# Altium schematic symbol library MCU_Microchip_PIC18.SchLib: 172 symbols (part 3 of 4)
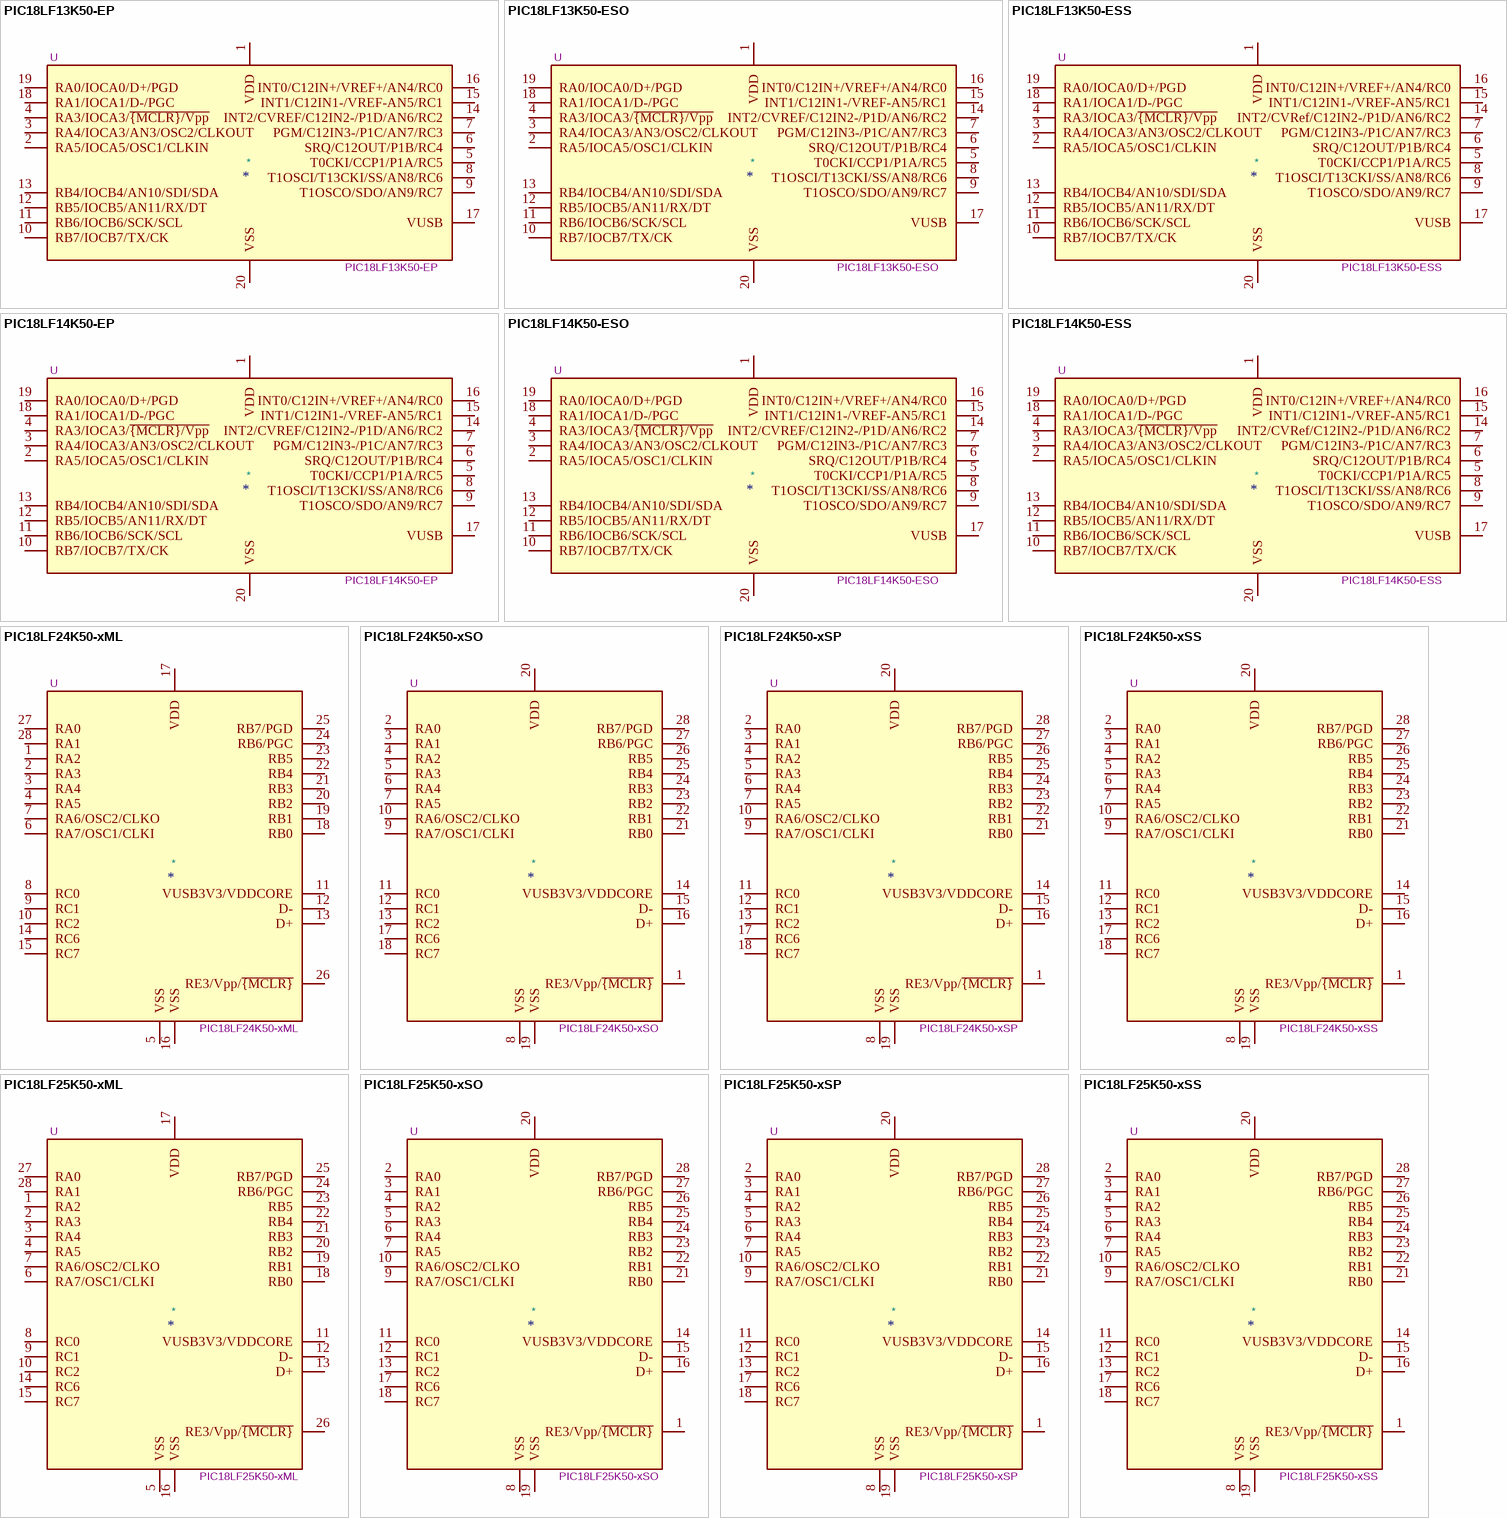
[diagram p18: symbols PIC18LF13K50-EP to PIC18LF25K50-xSS]

## PIC18LF13K50-ESS
designator *  value PIC18LF13K50-ESS  Reference: U
ki_keywords: Flash-Based 8bit CMOS Microcontroller XLP; ki_description: 8K Flash, 512 SRAM, 256 EEPROM, USB, nanoWatt XLP, SSOP20; ki_fp_filters: SSOP*5.3x7.2mm*P0.65mm*; Footprint: Package_SO:SSOP-20_5.3x7.2mm_P0.65mm; Datasheet: http://ww1.microchip.com/downloads/en/devicedoc/41350c.pdf
pins: 1 VDD, 2 RA5/IOCA5/OSC1/CLKIN, 3 RA4/IOCA3/AN3/OSC2/CLKOUT, 4 RA3/IOCA3/~{{MCLR}/Vpp}, 5 T0CKI/CCP1/P1A/RC5, 6 SRQ/C12OUT/P1B/RC4, 7 PGM/C12IN3-/P1C/AN7/RC3, 8 T1OSCI/T13CKI/SS/AN8/RC6, 9 T1OSCO/SDO/AN9/RC7, 10 RB7/IOCB7/TX/CK, 11 RB6/IOCB6/SCK/SCL, 12 RB5/IOCB5/AN11/RX/DT, 13 RB4/IOCB4/AN10/SDI/SDA, 14 INT2/CVRef/C12IN2-/P1D/AN6/RC2, 15 INT1/C12IN1-/VREF-AN5/RC1, 16 INT0/C12IN+/VREF+/AN4/RC0, 17 VUSB, 18 RA1/IOCA1/D-/PGC, 19 RA0/IOCA0/D+/PGD, 20 VSS

## PIC18LF14K50-EP
designator *  value PIC18LF14K50-EP  Reference: U
ki_keywords: Flash-Based 8bit CMOS Microcontroller XLP; ki_description: 16K Flash, 768 SRAM, 256 EEPROM, USB, nanoWatt XLP, DIP20; ki_fp_filters: DIP*W7.62mm* PDIP*W7.62mm*; Footprint: Package_DIP:DIP-20_W7.62mm; Datasheet: http://ww1.microchip.com/downloads/en/devicedoc/41350c.pdf
pins: 1 VDD, 2 RA5/IOCA5/OSC1/CLKIN, 3 RA4/IOCA3/AN3/OSC2/CLKOUT, 4 RA3/IOCA3/~{{MCLR}/Vpp}, 5 T0CKI/CCP1/P1A/RC5, 6 SRQ/C12OUT/P1B/RC4, 7 PGM/C12IN3-/P1C/AN7/RC3, 8 T1OSCI/T13CKI/SS/AN8/RC6, 9 T1OSCO/SDO/AN9/RC7, 10 RB7/IOCB7/TX/CK, 11 RB6/IOCB6/SCK/SCL, 12 RB5/IOCB5/AN11/RX/DT, 13 RB4/IOCB4/AN10/SDI/SDA, 14 INT2/CVREF/C12IN2-/P1D/AN6/RC2, 15 INT1/C12IN1-/VREF-AN5/RC1, 16 INT0/C12IN+/VREF+/AN4/RC0, 17 VUSB, 18 RA1/IOCA1/D-/PGC, 19 RA0/IOCA0/D+/PGD, 20 VSS

## PIC18LF14K50-ESO
designator *  value PIC18LF14K50-ESO  Reference: U
ki_keywords: Flash-Based 8bit CMOS Microcontroller XLP; ki_description: 16K Flash, 768 SRAM, 256 EEPROM, USB, nanoWatt XLP, SOIC20; ki_fp_filters: SOIC*W*7.5x12.8mm*P1.27mm*; Footprint: Package_SO:SOIC-20W_7.5x12.8mm_P1.27mm; Datasheet: http://ww1.microchip.com/downloads/en/devicedoc/41350c.pdf
pins: 1 VDD, 2 RA5/IOCA5/OSC1/CLKIN, 3 RA4/IOCA3/AN3/OSC2/CLKOUT, 4 RA3/IOCA3/~{{MCLR}/Vpp}, 5 T0CKI/CCP1/P1A/RC5, 6 SRQ/C12OUT/P1B/RC4, 7 PGM/C12IN3-/P1C/AN7/RC3, 8 T1OSCI/T13CKI/SS/AN8/RC6, 9 T1OSCO/SDO/AN9/RC7, 10 RB7/IOCB7/TX/CK, 11 RB6/IOCB6/SCK/SCL, 12 RB5/IOCB5/AN11/RX/DT, 13 RB4/IOCB4/AN10/SDI/SDA, 14 INT2/CVREF/C12IN2-/P1D/AN6/RC2, 15 INT1/C12IN1-/VREF-AN5/RC1, 16 INT0/C12IN+/VREF+/AN4/RC0, 17 VUSB, 18 RA1/IOCA1/D-/PGC, 19 RA0/IOCA0/D+/PGD, 20 VSS

## PIC18LF14K50-ESS
designator *  value PIC18LF14K50-ESS  Reference: U
ki_keywords: Flash-Based 8bit CMOS Microcontroller XLP; ki_description: 16K Flash, 768 SRAM, 256 EEPROM, USB, nanoWatt XLP, SSOP20; ki_fp_filters: SSOP*5.3x7.2mm*P0.65mm*; Footprint: Package_SO:SSOP-20_5.3x7.2mm_P0.65mm; Datasheet: http://ww1.microchip.com/downloads/en/devicedoc/41350c.pdf
pins: 1 VDD, 2 RA5/IOCA5/OSC1/CLKIN, 3 RA4/IOCA3/AN3/OSC2/CLKOUT, 4 RA3/IOCA3/~{{MCLR}/Vpp}, 5 T0CKI/CCP1/P1A/RC5, 6 SRQ/C12OUT/P1B/RC4, 7 PGM/C12IN3-/P1C/AN7/RC3, 8 T1OSCI/T13CKI/SS/AN8/RC6, 9 T1OSCO/SDO/AN9/RC7, 10 RB7/IOCB7/TX/CK, 11 RB6/IOCB6/SCK/SCL, 12 RB5/IOCB5/AN11/RX/DT, 13 RB4/IOCB4/AN10/SDI/SDA, 14 INT2/CVRef/C12IN2-/P1D/AN6/RC2, 15 INT1/C12IN1-/VREF-AN5/RC1, 16 INT0/C12IN+/VREF+/AN4/RC0, 17 VUSB, 18 RA1/IOCA1/D-/PGC, 19 RA0/IOCA0/D+/PGD, 20 VSS

## PIC18LF24K50-xML
designator *  value PIC18LF24K50-xML  Reference: U
ki_keywords: Flash-Based 8-Bit Microcontroller XLP; ki_description: 16K Flash, 2K SRAM, 256 EEPROM, USB, nanoWatt XLP, 1.8V to 3.6V, QFN28; ki_fp_filters: QFN*1EP*6x6mm*P0.65mm*; Footprint: Package_DFN_QFN:QFN-28-1EP_6x6mm_P0.65mm_EP4.25x4.25mm; Datasheet: http://ww1.microchip.com/downloads/en/devicedoc/30000684B.pdf
pins: 1 RA2, 2 RA3, 3 RA4, 4 RA5, 5 VSS, 6 RA7/OSC1/CLKI, 7 RA6/OSC2/CLKO, 8 RC0, 9 RC1, 10 RC2, 11 VUSB3V3/VDDCORE, 12 D-, 13 D+, 14 RC6, 15 RC7, 16 VSS, 17 VDD, 18 RB0, 19 RB1, 20 RB2, 21 RB3, 22 RB4, 23 RB5, 24 RB6/PGC, 25 RB7/PGD, 26 RE3/Vpp/~{{MCLR}}, 27 RA0, 28 RA1

## PIC18LF24K50-xSO
designator *  value PIC18LF24K50-xSO  Reference: U
ki_keywords: Flash-Based 8-Bit Microcontroller XLP; ki_description: 16K Flash, 2K SRAM, 256 EEPROM, USB, nanoWatt XLP, 1.8V to 3.6V, SOIC28; ki_fp_filters: SO*W*7.5x17.9mm*P1.27mm*; Footprint: Package_SO:SOIC-28W_7.5x17.9mm_P1.27mm; Datasheet: http://ww1.microchip.com/downloads/en/devicedoc/30000684B.pdf
pins: 1 RE3/Vpp/~{{MCLR}}, 2 RA0, 3 RA1, 4 RA2, 5 RA3, 6 RA4, 7 RA5, 8 VSS, 9 RA7/OSC1/CLKI, 10 RA6/OSC2/CLKO, 11 RC0, 12 RC1, 13 RC2, 14 VUSB3V3/VDDCORE, 15 D-, 16 D+, 17 RC6, 18 RC7, 19 VSS, 20 VDD, 21 RB0, 22 RB1, 23 RB2, 24 RB3, 25 RB4, 26 RB5, 27 RB6/PGC, 28 RB7/PGD

## PIC18LF24K50-xSP
designator *  value PIC18LF24K50-xSP  Reference: U
ki_keywords: Flash-Based 8-Bit Microcontroller XLP; ki_description: 16K Flash, 2K SRAM, 256 EEPROM, USB, nanoWatt XLP, 1.8V to 3.6V, SPDIP28; ki_fp_filters: SPDIP*W7.62mm* DIP*W7.62mm* PDIP*W7.62mm*; Footprint: Package_DIP:DIP-28_W7.62mm; Datasheet: http://ww1.microchip.com/downloads/en/devicedoc/30000684B.pdf
pins: 1 RE3/Vpp/~{{MCLR}}, 2 RA0, 3 RA1, 4 RA2, 5 RA3, 6 RA4, 7 RA5, 8 VSS, 9 RA7/OSC1/CLKI, 10 RA6/OSC2/CLKO, 11 RC0, 12 RC1, 13 RC2, 14 VUSB3V3/VDDCORE, 15 D-, 16 D+, 17 RC6, 18 RC7, 19 VSS, 20 VDD, 21 RB0, 22 RB1, 23 RB2, 24 RB3, 25 RB4, 26 RB5, 27 RB6/PGC, 28 RB7/PGD

## PIC18LF24K50-xSS
designator *  value PIC18LF24K50-xSS  Reference: U
ki_keywords: Flash-Based 8-Bit Microcontroller XLP; ki_description: 16K Flash, 2K SRAM, 256 EEPROM, USB, nanoWatt XLP, 1.8V to 3.6V, SSOP28; ki_fp_filters: SSOP*5.3x10.2mm*P0.65mm*; Footprint: Package_SO:SSOP-28_5.3x10.2mm_P0.65mm; Datasheet: http://ww1.microchip.com/downloads/en/devicedoc/30000684B.pdf
pins: 1 RE3/Vpp/~{{MCLR}}, 2 RA0, 3 RA1, 4 RA2, 5 RA3, 6 RA4, 7 RA5, 8 VSS, 9 RA7/OSC1/CLKI, 10 RA6/OSC2/CLKO, 11 RC0, 12 RC1, 13 RC2, 14 VUSB3V3/VDDCORE, 15 D-, 16 D+, 17 RC6, 18 RC7, 19 VSS, 20 VDD, 21 RB0, 22 RB1, 23 RB2, 24 RB3, 25 RB4, 26 RB5, 27 RB6/PGC, 28 RB7/PGD

## PIC18LF25K50-xML
designator *  value PIC18LF25K50-xML  Reference: U
ki_keywords: Flash-Based 8-Bit Microcontroller XLP; ki_description: 32K Flash, 2K SRAM, 256 EEPROM, USB, nanoWatt XLP, 1.8V to 3.6V, QFN28; ki_fp_filters: QFN*1EP*6x6mm*P0.65mm*; Footprint: Package_DFN_QFN:QFN-28-1EP_6x6mm_P0.65mm_EP4.25x4.25mm; Datasheet: http://ww1.microchip.com/downloads/en/devicedoc/30000684B.pdf
pins: 1 RA2, 2 RA3, 3 RA4, 4 RA5, 5 VSS, 6 RA7/OSC1/CLKI, 7 RA6/OSC2/CLKO, 8 RC0, 9 RC1, 10 RC2, 11 VUSB3V3/VDDCORE, 12 D-, 13 D+, 14 RC6, 15 RC7, 16 VSS, 17 VDD, 18 RB0, 19 RB1, 20 RB2, 21 RB3, 22 RB4, 23 RB5, 24 RB6/PGC, 25 RB7/PGD, 26 RE3/Vpp/~{{MCLR}}, 27 RA0, 28 RA1

## PIC18LF25K50-xSO
designator *  value PIC18LF25K50-xSO  Reference: U
ki_keywords: Flash-Based 8-Bit Microcontroller XLP; ki_description: 32K Flash, 2K SRAM, 256 EEPROM, USB, nanoWatt XLP, 1.8V to 3.6V, SOIC28; ki_fp_filters: SO*W*7.5x17.9mm*P1.27mm*; Footprint: Package_SO:SOIC-28W_7.5x17.9mm_P1.27mm; Datasheet: http://ww1.microchip.com/downloads/en/devicedoc/30000684B.pdf
pins: 1 RE3/Vpp/~{{MCLR}}, 2 RA0, 3 RA1, 4 RA2, 5 RA3, 6 RA4, 7 RA5, 8 VSS, 9 RA7/OSC1/CLKI, 10 RA6/OSC2/CLKO, 11 RC0, 12 RC1, 13 RC2, 14 VUSB3V3/VDDCORE, 15 D-, 16 D+, 17 RC6, 18 RC7, 19 VSS, 20 VDD, 21 RB0, 22 RB1, 23 RB2, 24 RB3, 25 RB4, 26 RB5, 27 RB6/PGC, 28 RB7/PGD

## PIC18LF25K50-xSP
designator *  value PIC18LF25K50-xSP  Reference: U
ki_keywords: Flash-Based 8-Bit Microcontroller XLP; ki_description: 32K Flash, 2K SRAM, 256 EEPROM, USB, nanoWatt XLP, 1.8V to 3.6V, SPDIP28; ki_fp_filters: SPDIP*W7.62mm* DIP*W7.62mm* PDIP*W7.62mm*; Footprint: Package_DIP:DIP-28_W7.62mm; Datasheet: http://ww1.microchip.com/downloads/en/devicedoc/30000684B.pdf
pins: 1 RE3/Vpp/~{{MCLR}}, 2 RA0, 3 RA1, 4 RA2, 5 RA3, 6 RA4, 7 RA5, 8 VSS, 9 RA7/OSC1/CLKI, 10 RA6/OSC2/CLKO, 11 RC0, 12 RC1, 13 RC2, 14 VUSB3V3/VDDCORE, 15 D-, 16 D+, 17 RC6, 18 RC7, 19 VSS, 20 VDD, 21 RB0, 22 RB1, 23 RB2, 24 RB3, 25 RB4, 26 RB5, 27 RB6/PGC, 28 RB7/PGD

## PIC18LF25K50-xSS
designator *  value PIC18LF25K50-xSS  Reference: U
ki_keywords: Flash-Based 8-Bit Microcontroller XLP; ki_description: 32K Flash, 2K SRAM, 256 EEPROM, USB, nanoWatt XLP, 1.8V to 3.6V, SSOP28; ki_fp_filters: SSOP*5.3x10.2mm*P0.65mm*; Footprint: Package_SO:SSOP-28_5.3x10.2mm_P0.65mm; Datasheet: http://ww1.microchip.com/downloads/en/devicedoc/30000684B.pdf
pins: 1 RE3/Vpp/~{{MCLR}}, 2 RA0, 3 RA1, 4 RA2, 5 RA3, 6 RA4, 7 RA5, 8 VSS, 9 RA7/OSC1/CLKI, 10 RA6/OSC2/CLKO, 11 RC0, 12 RC1, 13 RC2, 14 VUSB3V3/VDDCORE, 15 D-, 16 D+, 17 RC6, 18 RC7, 19 VSS, 20 VDD, 21 RB0, 22 RB1, 23 RB2, 24 RB3, 25 RB4, 26 RB5, 27 RB6/PGC, 28 RB7/PGD

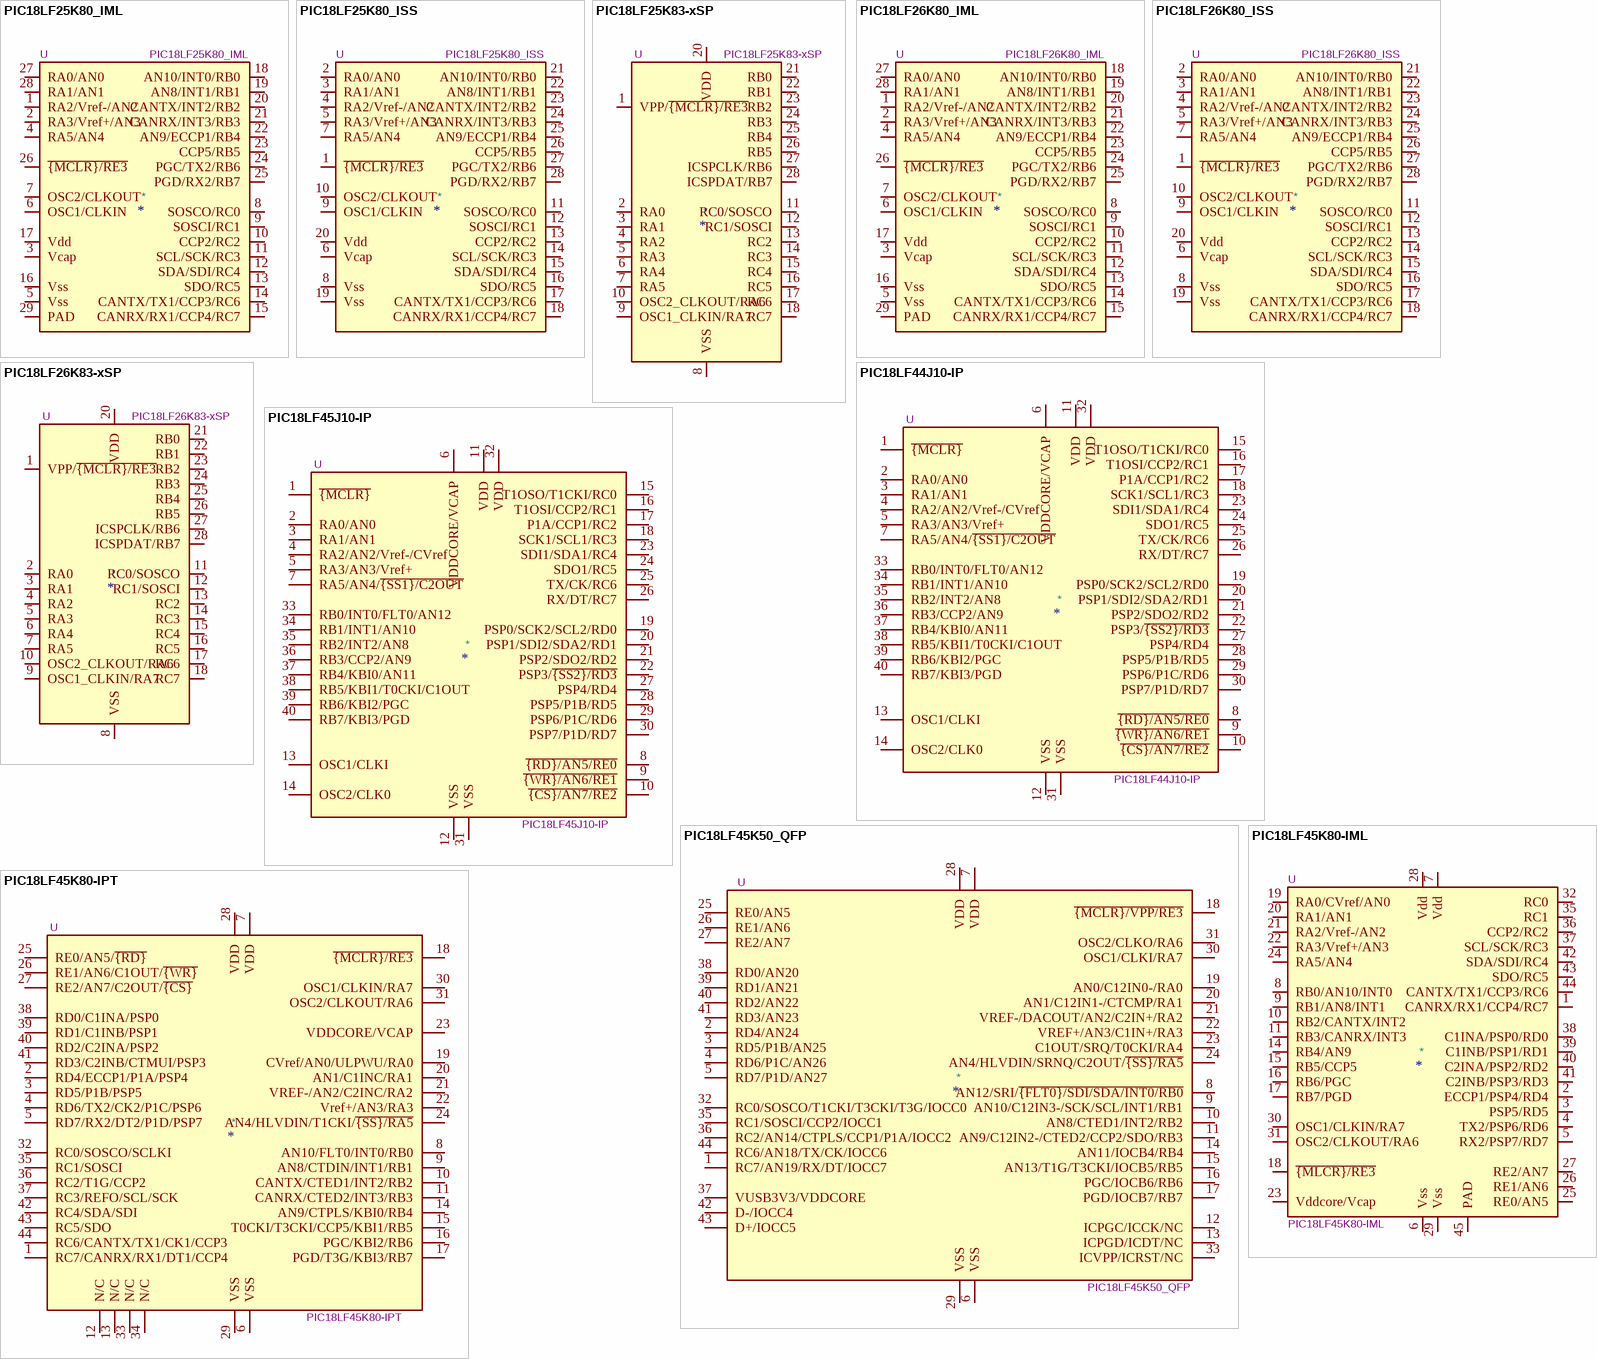
[diagram p11: symbols PIC18LF25K80_IML to PIC18LF45K80-IPT]

## PIC18LF25K80_IML
designator *  value PIC18LF25K80_IML  Reference: U
ki_keywords: microcontroller microchip CAN USB UART QFN SPI I2C FLASH EEPROM; ki_description: 32K Flash, 3.5K RAM, 1K EEPROM 28-Pin QFN Flash Microcontroller with ECAN and nanoWatt XLP Technology; ki_fp_filters: QFN*1EP*6x6mm*P0.65mm*; Footprint: Package_DFN_QFN:QFN-28-1EP_6x6mm_P0.65mm_EP4.25x4.25mm; Datasheet: http://ww1.microchip.com/downloads/en/DeviceDoc/39977f.pdf
pins: 1 RA2/Vref-/AN2, 2 RA3/Vref+/AN3, 3 Vcap, 4 RA5/AN4, 5 Vss, 6 OSC1/CLKIN, 7 OSC2/CLKOUT, 8 SOSCO/RC0, 9 SOSCI/RC1, 10 CCP2/RC2, 11 SCL/SCK/RC3, 12 SDA/SDI/RC4, 13 SDO/RC5, 14 CANTX/TX1/CCP3/RC6, 15 CANRX/RX1/CCP4/RC7, 16 Vss, 17 Vdd, 18 AN10/INT0/RB0, 19 AN8/INT1/RB1, 20 CANTX/INT2/RB2, 21 CANRX/INT3/RB3, 22 AN9/ECCP1/RB4, 23 CCP5/RB5, 24 PGC/TX2/RB6, 25 PGD/RX2/RB7, 26 ~{{MCLR}/RE3}, 27 RA0/AN0, 28 RA1/AN1, 29 PAD

## PIC18LF25K80_ISS
designator *  value PIC18LF25K80_ISS  Reference: U
ki_keywords: microchip microcontroller PIC18 flash ECAN XLP nanoWatt; ki_description: 32K Flash, 3.5K RAM, 1K EEPROM PIC18 Microcontroller ADC PWM CAN SPI I2C USART in SSOP28 package; ki_fp_filters: SSOP*5.3x10.2mm*P0.65mm*; Footprint: Package_SO:SSOP-28_5.3x10.2mm_P0.65mm; Datasheet: http://ww1.microchip.com/downloads/en/DeviceDoc/39977f.pdf
pins: 1 ~{{MCLR}/RE3}, 2 RA0/AN0, 3 RA1/AN1, 4 RA2/Vref-/AN2, 5 RA3/Vref+/AN3, 6 Vcap, 7 RA5/AN4, 8 Vss, 9 OSC1/CLKIN, 10 OSC2/CLKOUT, 11 SOSCO/RC0, 12 SOSCI/RC1, 13 CCP2/RC2, 14 SCL/SCK/RC3, 15 SDA/SDI/RC4, 16 SDO/RC5, 17 CANTX/TX1/CCP3/RC6, 18 CANRX/RX1/CCP4/RC7, 19 Vss, 20 Vdd, 21 AN10/INT0/RB0, 22 AN8/INT1/RB1, 23 CANTX/INT2/RB2, 24 CANRX/INT3/RB3, 25 AN9/ECCP1/RB4, 26 CCP5/RB5, 27 PGC/TX2/RB6, 28 PGD/RX2/RB7

## PIC18LF25K83-xSP
designator *  value PIC18LF25K83-xSP  Reference: U
ki_keywords: microcontroller Microchip DMA WWDT DIA DCI XLP CLC CWG CCP NCO DSM CRC UART LIN DMX DALI SPI CAN I2C PPS SMT ADC2 CVD DAC; ki_description: 32K Flash, 2K RAM, 1K EEPROM, 1.8-3.6V, PIC18, low-power microcontroller with CAN, DIP-28; ki_fp_filters: DIP*W7.62mm*; Footprint: Package_DIP:DIP-28_W7.62mm; Datasheet: http://ww1.microchip.com/downloads/en/DeviceDoc/40001943A.pdf
pins: 1 VPP/~{{MCLR}/RE3}, 2 RA0, 3 RA1, 4 RA2, 5 RA3, 6 RA4, 7 RA5, 8 VSS, 9 OSC1_CLKIN/RA7, 10 OSC2_CLKOUT/RA6, 11 RC0/SOSCO, 12 RC1/SOSCI, 13 RC2, 14 RC3, 15 RC4, 16 RC5, 17 RC6, 18 RC7, 19 VSS hidden, 20 VDD, 21 RB0, 22 RB1, 23 RB2, 24 RB3, 25 RB4, 26 RB5, 27 ICSPCLK/RB6, 28 ICSPDAT/RB7

## PIC18LF26K80_IML
designator *  value PIC18LF26K80_IML  Reference: U
ki_keywords: microchip microcontroller PIC18 flash ECAN XLP nanoWatt; ki_description: 64K Flash, 3.5K RAM, 1K EEPROM PIC18 Microcontroller ADC PWM CAN SPI I2C USART in QFN28 package; ki_fp_filters: QFN*1EP*6x6mm*P0.65mm*; Footprint: Package_DFN_QFN:QFN-28-1EP_6x6mm_P0.65mm_EP4.25x4.25mm; Datasheet: http://ww1.microchip.com/downloads/en/DeviceDoc/39977f.pdf
pins: 1 RA2/Vref-/AN2, 2 RA3/Vref+/AN3, 3 Vcap, 4 RA5/AN4, 5 Vss, 6 OSC1/CLKIN, 7 OSC2/CLKOUT, 8 SOSCO/RC0, 9 SOSCI/RC1, 10 CCP2/RC2, 11 SCL/SCK/RC3, 12 SDA/SDI/RC4, 13 SDO/RC5, 14 CANTX/TX1/CCP3/RC6, 15 CANRX/RX1/CCP4/RC7, 16 Vss, 17 Vdd, 18 AN10/INT0/RB0, 19 AN8/INT1/RB1, 20 CANTX/INT2/RB2, 21 CANRX/INT3/RB3, 22 AN9/ECCP1/RB4, 23 CCP5/RB5, 24 PGC/TX2/RB6, 25 PGD/RX2/RB7, 26 ~{{MCLR}/RE3}, 27 RA0/AN0, 28 RA1/AN1, 29 PAD

## PIC18LF26K80_ISS
designator *  value PIC18LF26K80_ISS  Reference: U
ki_keywords: microchip microcontroller PIC18 flash ECAN XLP nanoWatt; ki_description: 64K Flash, 3.5K RAM, 1K EEPROM PIC18 Microcontroller ADC PWM CAN SPI I2C USART in SSOP28 package; ki_fp_filters: SSOP*5.3x10.2mm*P0.65mm*; Footprint: Package_SO:SSOP-28_5.3x10.2mm_P0.65mm; Datasheet: http://ww1.microchip.com/downloads/en/DeviceDoc/39977f.pdf
pins: 1 ~{{MCLR}/RE3}, 2 RA0/AN0, 3 RA1/AN1, 4 RA2/Vref-/AN2, 5 RA3/Vref+/AN3, 6 Vcap, 7 RA5/AN4, 8 Vss, 9 OSC1/CLKIN, 10 OSC2/CLKOUT, 11 SOSCO/RC0, 12 SOSCI/RC1, 13 CCP2/RC2, 14 SCL/SCK/RC3, 15 SDA/SDI/RC4, 16 SDO/RC5, 17 CANTX/TX1/CCP3/RC6, 18 CANRX/RX1/CCP4/RC7, 19 Vss, 20 Vdd, 21 AN10/INT0/RB0, 22 AN8/INT1/RB1, 23 CANTX/INT2/RB2, 24 CANRX/INT3/RB3, 25 AN9/ECCP1/RB4, 26 CCP5/RB5, 27 PGC/TX2/RB6, 28 PGD/RX2/RB7

## PIC18LF26K83-xSP
designator *  value PIC18LF26K83-xSP  Reference: U
ki_keywords: microcontroller Microchip DMA WWDT DIA DCI XLP CLC CWG CCP NCO DSM CRC UART LIN DMX DALI SPI CAN I2C PPS SMT ADC2 CVD DAC; ki_description: 64K Flash, 4K RAM, 1K EEPROM, 1.8-3.6V, PIC18, low-power microcontroller with CAN, DIP-28; ki_fp_filters: DIP*W7.62mm*; Footprint: Package_DIP:DIP-28_W7.62mm; Datasheet: http://ww1.microchip.com/downloads/en/DeviceDoc/40001943A.pdf
pins: 1 VPP/~{{MCLR}/RE3}, 2 RA0, 3 RA1, 4 RA2, 5 RA3, 6 RA4, 7 RA5, 8 VSS, 9 OSC1_CLKIN/RA7, 10 OSC2_CLKOUT/RA6, 11 RC0/SOSCO, 12 RC1/SOSCI, 13 RC2, 14 RC3, 15 RC4, 16 RC5, 17 RC6, 18 RC7, 19 VSS hidden, 20 VDD, 21 RB0, 22 RB1, 23 RB2, 24 RB3, 25 RB4, 26 RB5, 27 ICSPCLK/RB6, 28 ICSPDAT/RB7

## PIC18LF44J10-IP
designator *  value PIC18LF44J10-IP  Reference: U
ki_keywords: Flash-Based 8-Bit Microcontroller; ki_description: 16K Flash, 1K SRAM, ADC, DIP40; ki_fp_filters: DIP*W15.24mm* PDIP*W15.24mm*; Footprint: Package_DIP:DIP-40_W15.24mm; Datasheet: http://ww1.microchip.com/downloads/en/DeviceDoc/39682E.pdf
pins: 1 ~{{MCLR}}, 2 RA0/AN0, 3 RA1/AN1, 4 RA2/AN2/Vref-/CVref, 5 RA3/AN3/Vref+, 6 VDDCORE/VCAP, 7 RA5/AN4/~{{SS1}/C2OUT}, 8 ~{{RD}/AN5/RE0}, 9 ~{{WR}/AN6/RE1}, 10 ~{{CS}/AN7/RE2}, 11 VDD, 12 VSS, 13 OSC1/CLKI, 14 OSC2/CLK0, 15 T1OSO/T1CKI/RC0, 16 T1OSI/CCP2/RC1, 17 P1A/CCP1/RC2, 18 SCK1/SCL1/RC3, 19 PSP0/SCK2/SCL2/RD0, 20 PSP1/SDI2/SDA2/RD1, 21 PSP2/SDO2/RD2, 22 PSP3/~{{SS2}/RD3}, 23 SDI1/SDA1/RC4, 24 SDO1/RC5, 25 TX/CK/RC6, 26 RX/DT/RC7, 27 PSP4/RD4, 28 PSP5/P1B/RD5, 29 PSP6/P1C/RD6, 30 PSP7/P1D/RD7, 31 VSS, 32 VDD, 33 RB0/INT0/FLT0/AN12, 34 RB1/INT1/AN10, 35 RB2/INT2/AN8, 36 RB3/CCP2/AN9, 37 RB4/KBI0/AN11, 38 RB5/KBI1/T0CKI/C1OUT, 39 RB6/KBI2/PGC, 40 RB7/KBI3/PGD

## PIC18LF45J10-IP
designator *  value PIC18LF45J10-IP  Reference: U
ki_keywords: Flash-Based 8-Bit Microcontroller; ki_description: 32K Flash, 1K SRAM, ADC, DIP40; ki_fp_filters: DIP*W15.24mm* PDIP*W15.24mm*; Footprint: Package_DIP:DIP-40_W15.24mm; Datasheet: http://ww1.microchip.com/downloads/en/DeviceDoc/39682E.pdf
pins: 1 ~{{MCLR}}, 2 RA0/AN0, 3 RA1/AN1, 4 RA2/AN2/Vref-/CVref, 5 RA3/AN3/Vref+, 6 VDDCORE/VCAP, 7 RA5/AN4/~{{SS1}/C2OUT}, 8 ~{{RD}/AN5/RE0}, 9 ~{{WR}/AN6/RE1}, 10 ~{{CS}/AN7/RE2}, 11 VDD, 12 VSS, 13 OSC1/CLKI, 14 OSC2/CLK0, 15 T1OSO/T1CKI/RC0, 16 T1OSI/CCP2/RC1, 17 P1A/CCP1/RC2, 18 SCK1/SCL1/RC3, 19 PSP0/SCK2/SCL2/RD0, 20 PSP1/SDI2/SDA2/RD1, 21 PSP2/SDO2/RD2, 22 PSP3/~{{SS2}/RD3}, 23 SDI1/SDA1/RC4, 24 SDO1/RC5, 25 TX/CK/RC6, 26 RX/DT/RC7, 27 PSP4/RD4, 28 PSP5/P1B/RD5, 29 PSP6/P1C/RD6, 30 PSP7/P1D/RD7, 31 VSS, 32 VDD, 33 RB0/INT0/FLT0/AN12, 34 RB1/INT1/AN10, 35 RB2/INT2/AN8, 36 RB3/CCP2/AN9, 37 RB4/KBI0/AN11, 38 RB5/KBI1/T0CKI/C1OUT, 39 RB6/KBI2/PGC, 40 RB7/KBI3/PGD

## PIC18LF45K50_QFP
designator *  value PIC18LF45K50_QFP  Reference: U
ki_keywords: microcontroller Flash EEPROM SPI I2C USB UART USART ADC TQFP; ki_description: 32K Flash, 2K RAM, 256B EEPROM, Microchip PIC18F series enhanced flash microcontroller with USB and nanoWatt XLP Technology in TQFP-44 package; ki_fp_filters: TQFP*10x10mm*P0.8mm*; Footprint: Package_QFP:TQFP-44_10x10mm_P0.8mm; Datasheet: http://ww1.microchip.com/downloads/en/DeviceDoc/30000684B.pdf
pins: 1 RC7/AN19/RX/DT/IOCC7, 2 RD4/AN24, 3 RD5/P1B/AN25, 4 RD6/P1C/AN26, 5 RD7/P1D/AN27, 6 VSS, 7 VDD, 8 AN12/SRI/~{{FLT0}/SDI/SDA/INT0/RB0}, 9 AN10/C12IN3-/SCK/SCL/INT1/RB1, 10 AN8/CTED1/INT2/RB2, 11 AN9/C12IN2-/CTED2/CCP2/SDO/RB3, 12 ICPGC/ICCK/NC, 13 ICPGD/ICDT/NC, 14 AN11/IOCB4/RB4, 15 AN13/T1G/T3CKI/IOCB5/RB5, 16 PGC/IOCB6/RB6, 17 PGD/IOCB7/RB7, 18 ~{{MCLR}/VPP/RE3}, 19 AN0/C12IN0-/RA0, 20 AN1/C12IN1-/CTCMP/RA1, 21 VREF-/DACOUT/AN2/C2IN+/RA2, 22 VREF+/AN3/C1IN+/RA3, 23 C1OUT/SRQ/T0CKI/RA4, 24 AN4/HLVDIN/SRNQ/C2OUT/~{{SS}/RA5}, 25 RE0/AN5, 26 RE1/AN6, 27 RE2/AN7, 28 VDD, 29 VSS, 30 OSC1/CLKI/RA7, 31 OSC2/CLKO/RA6, 32 RC0/SOSCO/T1CKI/T3CKI/T3G/IOCC0, 33 ICVPP/ICRST/NC, 34 NC hidden, 35 RC1/SOSCI/CCP2/IOCC1, 36 RC2/AN14/CTPLS/CCP1/P1A/IOCC2, 37 VUSB3V3/VDDCORE, 38 RD0/AN20, 39 RD1/AN21, 40 RD2/AN22, 41 RD3/AN23, 42 D-/IOCC4, 43 D+/IOCC5, 44 RC6/AN18/TX/CK/IOCC6

## PIC18LF45K80-IML
designator *  value PIC18LF45K80-IML  Reference: U
ki_keywords: microchip microcontroller PIC18 flash ECAN XLP nanoWatt; ki_description: 32K Flash, 3.5K RAM, 1K EEPROM PIC18 Microcontroller ADC PWM CAN SPI I2C USART in QFN44 package; ki_fp_filters: QFN*1EP*8x8mm*P0.65mm*; Footprint: Package_DFN_QFN:QFN-44-1EP_8x8mm_P0.65mm_EP6.45x6.45mm; Datasheet: http://ww1.microchip.com/downloads/en/DeviceDoc/39977f.pdf
pins: 1 CANRX/RX1/CCP4/RC7, 2 ECCP1/PSP4/RD4, 3 PSP5/RD5, 4 TX2/PSP6/RD6, 5 RX2/PSP7/RD7, 6 Vss, 7 Vdd, 8 RB0/AN10/INT0, 9 RB1/AN8/INT1, 10 RB2/CANTX/INT2, 11 RB3/CANRX/INT3, 12 NC hidden, 13 NC hidden, 14 RB4/AN9, 15 RB5/CCP5, 16 RB6/PGC, 17 RB7/PGD, 18 ~{{MLCR}/RE3}, 19 RA0/CVref/AN0, 20 RA1/AN1, 21 RA2/Vref-/AN2, 22 RA3/Vref+/AN3, 23 Vddcore/Vcap, 24 RA5/AN4, 25 RE0/AN5, 26 RE1/AN6, 27 RE2/AN7, 28 Vdd, 29 Vss, 30 OSC1/CLKIN/RA7, 31 OSC2/CLKOUT/RA6, 32 RC0, 33 NC hidden, 34 NC hidden, 35 RC1, 36 CCP2/RC2, 37 SCL/SCK/RC3, 38 C1INA/PSP0/RD0, 39 C1INB/PSP1/RD1, 40 C2INA/PSP2/RD2, 41 C2INB/PSP3/RD3, 42 SDA/SDI/RC4, 43 SDO/RC5, 44 CANTX/TX1/CCP3/RC6, 45 PAD

## PIC18LF45K80-IPT
designator *  value PIC18LF45K80-IPT  Reference: U
ki_keywords: microchip microcontroller PIC18 flash ECAN XLP nanoWatt; ki_description: 32K Flash, 3.5K RAM, 1K EEPROM PIC18 Microcontroller ADC PWM CAN SPI I2C USART in TQFP44 package; ki_fp_filters: TQFP*10x10mm*P0.8mm*; Footprint: Package_QFP:TQFP-44_10x10mm_P0.8mm; Datasheet: http://ww1.microchip.com/downloads/en/DeviceDoc/39977f.pdf
pins: 1 RC7/CANRX/RX1/DT1/CCP4, 2 RD4/ECCP1/P1A/PSP4, 3 RD5/P1B/PSP5, 4 RD6/TX2/CK2/P1C/PSP6, 5 RD7/RX2/DT2/P1D/PSP7, 6 VSS, 7 VDD, 8 AN10/FLT0/INT0/RB0, 9 AN8/CTDIN/INT1/RB1, 10 CANTX/CTED1/INT2/RB2, 11 CANRX/CTED2/INT3/RB3, 12 N/C, 13 N/C, 14 AN9/CTPLS/KBI0/RB4, 15 T0CKI/T3CKI/CCP5/KBI1/RB5, 16 PGC/KBI2/RB6, 17 PGD/T3G/KBI3/RB7, 18 ~{{MCLR}/RE3}, 19 CVref/AN0/ULPWU/RA0, 20 AN1/C1INC/RA1, 21 VREF-/AN2/C2INC/RA2, 22 Vref+/AN3/RA3, 23 VDDCORE/VCAP, 24 AN4/HLVDIN/T1CKI/~{{SS}/RA5}, 25 RE0/AN5/~{{RD}}, 26 RE1/AN6/C1OUT/~{{WR}}, 27 RE2/AN7/C2OUT/~{{CS}}, 28 VDD, 29 VSS, 30 OSC1/CLKIN/RA7, 31 OSC2/CLKOUT/RA6, 32 RC0/SOSCO/SCLKI, 33 N/C, 34 N/C, 35 RC1/SOSCI, 36 RC2/T1G/CCP2, 37 RC3/REFO/SCL/SCK, 38 RD0/C1INA/PSP0, 39 RD1/C1INB/PSP1, 40 RD2/C2INA/PSP2, 41 RD3/C2INB/CTMUI/PSP3, 42 RC4/SDA/SDI, 43 RC5/SDO, 44 RC6/CANTX/TX1/CK1/CCP3

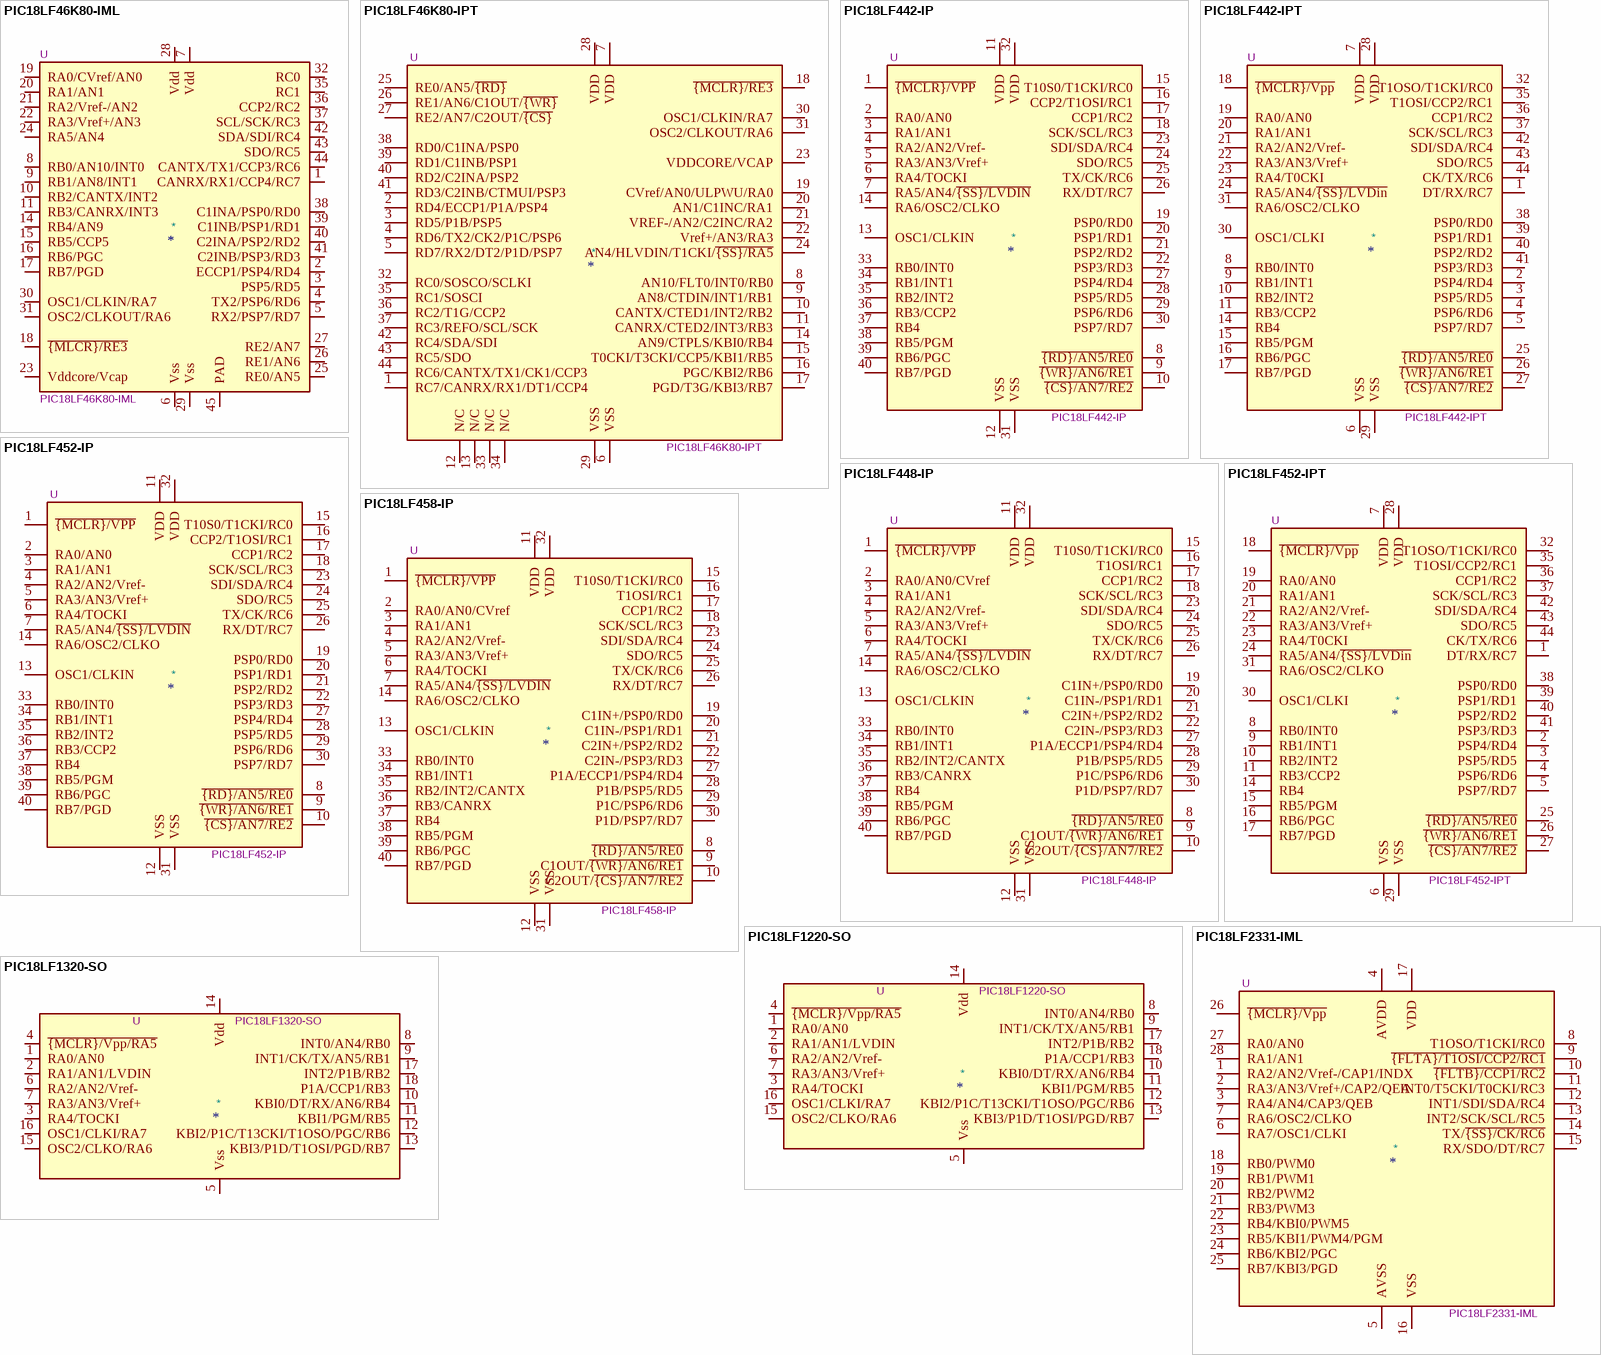
[diagram p12: symbols PIC18LF46K80-IML to PIC18LF2331-IML]

## PIC18LF46K80-IML
designator *  value PIC18LF46K80-IML  Reference: U
ki_keywords: microchip microcontroller PIC18 flash ECAN XLP nanoWatt; ki_description: 64K Flash, 3.5K RAM, 1K EEPROM PIC18 Microcontroller ADC PWM CAN SPI I2C USART in QFN44 package; ki_fp_filters: QFN*1EP*8x8mm*P0.65mm*; Footprint: Package_DFN_QFN:QFN-44-1EP_8x8mm_P0.65mm_EP6.45x6.45mm; Datasheet: http://ww1.microchip.com/downloads/en/DeviceDoc/39977f.pdf
pins: 1 CANRX/RX1/CCP4/RC7, 2 ECCP1/PSP4/RD4, 3 PSP5/RD5, 4 TX2/PSP6/RD6, 5 RX2/PSP7/RD7, 6 Vss, 7 Vdd, 8 RB0/AN10/INT0, 9 RB1/AN8/INT1, 10 RB2/CANTX/INT2, 11 RB3/CANRX/INT3, 12 NC hidden, 13 NC hidden, 14 RB4/AN9, 15 RB5/CCP5, 16 RB6/PGC, 17 RB7/PGD, 18 ~{{MLCR}/RE3}, 19 RA0/CVref/AN0, 20 RA1/AN1, 21 RA2/Vref-/AN2, 22 RA3/Vref+/AN3, 23 Vddcore/Vcap, 24 RA5/AN4, 25 RE0/AN5, 26 RE1/AN6, 27 RE2/AN7, 28 Vdd, 29 Vss, 30 OSC1/CLKIN/RA7, 31 OSC2/CLKOUT/RA6, 32 RC0, 33 NC hidden, 34 NC hidden, 35 RC1, 36 CCP2/RC2, 37 SCL/SCK/RC3, 38 C1INA/PSP0/RD0, 39 C1INB/PSP1/RD1, 40 C2INA/PSP2/RD2, 41 C2INB/PSP3/RD3, 42 SDA/SDI/RC4, 43 SDO/RC5, 44 CANTX/TX1/CCP3/RC6, 45 PAD

## PIC18LF46K80-IPT
designator *  value PIC18LF46K80-IPT  Reference: U
ki_keywords: microchip microcontroller PIC18 flash ECAN XLP nanoWatt; ki_description: 64K Flash, 3.5K RAM, 1K EEPROM PIC18 Microcontroller ADC PWM CAN SPI I2C USART in TQFP44 package; ki_fp_filters: TQFP*10x10mm*P0.8mm*; Footprint: Package_QFP:TQFP-44_10x10mm_P0.8mm; Datasheet: http://ww1.microchip.com/downloads/en/DeviceDoc/39977f.pdf
pins: 1 RC7/CANRX/RX1/DT1/CCP4, 2 RD4/ECCP1/P1A/PSP4, 3 RD5/P1B/PSP5, 4 RD6/TX2/CK2/P1C/PSP6, 5 RD7/RX2/DT2/P1D/PSP7, 6 VSS, 7 VDD, 8 AN10/FLT0/INT0/RB0, 9 AN8/CTDIN/INT1/RB1, 10 CANTX/CTED1/INT2/RB2, 11 CANRX/CTED2/INT3/RB3, 12 N/C, 13 N/C, 14 AN9/CTPLS/KBI0/RB4, 15 T0CKI/T3CKI/CCP5/KBI1/RB5, 16 PGC/KBI2/RB6, 17 PGD/T3G/KBI3/RB7, 18 ~{{MCLR}/RE3}, 19 CVref/AN0/ULPWU/RA0, 20 AN1/C1INC/RA1, 21 VREF-/AN2/C2INC/RA2, 22 Vref+/AN3/RA3, 23 VDDCORE/VCAP, 24 AN4/HLVDIN/T1CKI/~{{SS}/RA5}, 25 RE0/AN5/~{{RD}}, 26 RE1/AN6/C1OUT/~{{WR}}, 27 RE2/AN7/C2OUT/~{{CS}}, 28 VDD, 29 VSS, 30 OSC1/CLKIN/RA7, 31 OSC2/CLKOUT/RA6, 32 RC0/SOSCO/SCLKI, 33 N/C, 34 N/C, 35 RC1/SOSCI, 36 RC2/T1G/CCP2, 37 RC3/REFO/SCL/SCK, 38 RD0/C1INA/PSP0, 39 RD1/C1INB/PSP1, 40 RD2/C2INA/PSP2, 41 RD3/C2INB/CTMUI/PSP3, 42 RC4/SDA/SDI, 43 RC5/SDO, 44 RC6/CANTX/TX1/CK1/CCP3

## PIC18LF442-IP
designator *  value PIC18LF442-IP  Reference: U
ki_keywords: Flash-Based 8-Bit Microcontroller; ki_description: 16K Flash, 768B SRAM, 256 EEPROM, ADC, DIP40; ki_fp_filters: DIP*W15.24mm* PDIP*W15.24mm*; Footprint: Package_DIP:DIP-40_W15.24mm; Datasheet: http://ww1.microchip.com/downloads/en/DeviceDoc/39564c.pdf
pins: 1 ~{{MCLR}/VPP}, 2 RA0/AN0, 3 RA1/AN1, 4 RA2/AN2/Vref-, 5 RA3/AN3/Vref+, 6 RA4/TOCKI, 7 RA5/AN4/~{{SS}/LVDIN}, 8 ~{{RD}/AN5/RE0}, 9 ~{{WR}/AN6/RE1}, 10 ~{{CS}/AN7/RE2}, 11 VDD, 12 VSS, 13 OSC1/CLKIN, 14 RA6/OSC2/CLKO, 15 T10S0/T1CKI/RC0, 16 CCP2/T1OSI/RC1, 17 CCP1/RC2, 18 SCK/SCL/RC3, 19 PSP0/RD0, 20 PSP1/RD1, 21 PSP2/RD2, 22 PSP3/RD3, 23 SDI/SDA/RC4, 24 SDO/RC5, 25 TX/CK/RC6, 26 RX/DT/RC7, 27 PSP4/RD4, 28 PSP5/RD5, 29 PSP6/RD6, 30 PSP7/RD7, 31 VSS, 32 VDD, 33 RB0/INT0, 34 RB1/INT1, 35 RB2/INT2, 36 RB3/CCP2, 37 RB4, 38 RB5/PGM, 39 RB6/PGC, 40 RB7/PGD

## PIC18LF442-IPT
designator *  value PIC18LF442-IPT  Reference: U
ki_keywords: Flash-Based 8-Bit Microcontroller; ki_description: 16K Flash, 768B SRAM, 256 EEPROM, ADC, TQFP-44; ki_fp_filters: TQFP*10x10mm*P0.8mm*; Footprint: Package_QFP:TQFP-44_10x10mm_P0.8mm; Datasheet: http://ww1.microchip.com/downloads/en/DeviceDoc/39564c.pdf
pins: 1 DT/RX/RC7, 2 PSP4/RD4, 3 PSP5/RD5, 4 PSP6/RD6, 5 PSP7/RD7, 6 VSS, 7 VDD, 8 RB0/INT0, 9 RB1/INT1, 10 RB2/INT2, 11 RB3/CCP2, 12 NC hidden, 13 NC hidden, 14 RB4, 15 RB5/PGM, 16 RB6/PGC, 17 RB7/PGD, 18 ~{{MCLR}/Vpp}, 19 RA0/AN0, 20 RA1/AN1, 21 RA2/AN2/Vref-, 22 RA3/AN3/Vref+, 23 RA4/T0CKI, 24 RA5/AN4/~{{SS}/LVDin}, 25 ~{{RD}/AN5/RE0}, 26 ~{{WR}/AN6/RE1}, 27 ~{{CS}/AN7/RE2}, 28 VDD, 29 VSS, 30 OSC1/CLKI, 31 RA6/OSC2/CLKO, 32 T1OSO/T1CKI/RC0, 33 NC hidden, 34 NC hidden, 35 T1OSI/CCP2/RC1, 36 CCP1/RC2, 37 SCK/SCL/RC3, 38 PSP0/RD0, 39 PSP1/RD1, 40 PSP2/RD2, 41 PSP3/RD3, 42 SDI/SDA/RC4, 43 SDO/RC5, 44 CK/TX/RC6

## PIC18LF448-IP
designator *  value PIC18LF448-IP  Reference: U
ki_keywords: Flash-Based 8-Bit Microcontroller CAN; ki_description: 16K Flash, 768B SRAM, 256 EEPROM, CAN, DIP40; ki_fp_filters: DIP*W15.24mm* PDIP*W15.24mm*; Footprint: Package_DIP:DIP-40_W15.24mm; Datasheet: http://ww1.microchip.com/downloads/en/DeviceDoc/41159e.pdf
pins: 1 ~{{MCLR}/VPP}, 2 RA0/AN0/CVref, 3 RA1/AN1, 4 RA2/AN2/Vref-, 5 RA3/AN3/Vref+, 6 RA4/TOCKI, 7 RA5/AN4/~{{SS}/LVDIN}, 8 ~{{RD}/AN5/RE0}, 9 C1OUT/~{{WR}/AN6/RE1}, 10 C2OUT/~{{CS}/AN7/RE2}, 11 VDD, 12 VSS, 13 OSC1/CLKIN, 14 RA6/OSC2/CLKO, 15 T10S0/T1CKI/RC0, 16 T1OSI/RC1, 17 CCP1/RC2, 18 SCK/SCL/RC3, 19 C1IN+/PSP0/RD0, 20 C1IN-/PSP1/RD1, 21 C2IN+/PSP2/RD2, 22 C2IN-/PSP3/RD3, 23 SDI/SDA/RC4, 24 SDO/RC5, 25 TX/CK/RC6, 26 RX/DT/RC7, 27 P1A/ECCP1/PSP4/RD4, 28 P1B/PSP5/RD5, 29 P1C/PSP6/RD6, 30 P1D/PSP7/RD7, 31 VSS, 32 VDD, 33 RB0/INT0, 34 RB1/INT1, 35 RB2/INT2/CANTX, 36 RB3/CANRX, 37 RB4, 38 RB5/PGM, 39 RB6/PGC, 40 RB7/PGD

## PIC18LF452-IP
designator *  value PIC18LF452-IP  Reference: U
ki_keywords: Flash-Based 8-Bit Microcontroller; ki_description: 32K Flash, 1536B SRAM, 256 EEPROM, ADC, DIP40; ki_fp_filters: DIP*W15.24mm* PDIP*W15.24mm*; Footprint: Package_DIP:DIP-40_W15.24mm; Datasheet: http://ww1.microchip.com/downloads/en/DeviceDoc/39564c.pdf
pins: 1 ~{{MCLR}/VPP}, 2 RA0/AN0, 3 RA1/AN1, 4 RA2/AN2/Vref-, 5 RA3/AN3/Vref+, 6 RA4/TOCKI, 7 RA5/AN4/~{{SS}/LVDIN}, 8 ~{{RD}/AN5/RE0}, 9 ~{{WR}/AN6/RE1}, 10 ~{{CS}/AN7/RE2}, 11 VDD, 12 VSS, 13 OSC1/CLKIN, 14 RA6/OSC2/CLKO, 15 T10S0/T1CKI/RC0, 16 CCP2/T1OSI/RC1, 17 CCP1/RC2, 18 SCK/SCL/RC3, 19 PSP0/RD0, 20 PSP1/RD1, 21 PSP2/RD2, 22 PSP3/RD3, 23 SDI/SDA/RC4, 24 SDO/RC5, 25 TX/CK/RC6, 26 RX/DT/RC7, 27 PSP4/RD4, 28 PSP5/RD5, 29 PSP6/RD6, 30 PSP7/RD7, 31 VSS, 32 VDD, 33 RB0/INT0, 34 RB1/INT1, 35 RB2/INT2, 36 RB3/CCP2, 37 RB4, 38 RB5/PGM, 39 RB6/PGC, 40 RB7/PGD

## PIC18LF452-IPT
designator *  value PIC18LF452-IPT  Reference: U
ki_keywords: Flash-Based 8-Bit Microcontroller; ki_description: 32K Flash, 1536B SRAM, 256 EEPROM, ADC, TQFP-44; ki_fp_filters: TQFP*10x10mm*P0.8mm*; Footprint: Package_QFP:TQFP-44_10x10mm_P0.8mm; Datasheet: http://ww1.microchip.com/downloads/en/DeviceDoc/39564c.pdf
pins: 1 DT/RX/RC7, 2 PSP4/RD4, 3 PSP5/RD5, 4 PSP6/RD6, 5 PSP7/RD7, 6 VSS, 7 VDD, 8 RB0/INT0, 9 RB1/INT1, 10 RB2/INT2, 11 RB3/CCP2, 12 NC hidden, 13 NC hidden, 14 RB4, 15 RB5/PGM, 16 RB6/PGC, 17 RB7/PGD, 18 ~{{MCLR}/Vpp}, 19 RA0/AN0, 20 RA1/AN1, 21 RA2/AN2/Vref-, 22 RA3/AN3/Vref+, 23 RA4/T0CKI, 24 RA5/AN4/~{{SS}/LVDin}, 25 ~{{RD}/AN5/RE0}, 26 ~{{WR}/AN6/RE1}, 27 ~{{CS}/AN7/RE2}, 28 VDD, 29 VSS, 30 OSC1/CLKI, 31 RA6/OSC2/CLKO, 32 T1OSO/T1CKI/RC0, 33 NC hidden, 34 NC hidden, 35 T1OSI/CCP2/RC1, 36 CCP1/RC2, 37 SCK/SCL/RC3, 38 PSP0/RD0, 39 PSP1/RD1, 40 PSP2/RD2, 41 PSP3/RD3, 42 SDI/SDA/RC4, 43 SDO/RC5, 44 CK/TX/RC6

## PIC18LF458-IP
designator *  value PIC18LF458-IP  Reference: U
ki_keywords: Flash-Based 8-Bit Microcontroller CAN; ki_description: 32K Flash, 1536B SRAM, 256 EEPROM, CAN, DIP40; ki_fp_filters: DIP*W15.24mm* PDIP*W15.24mm*; Footprint: Package_DIP:DIP-40_W15.24mm; Datasheet: http://ww1.microchip.com/downloads/en/DeviceDoc/41159e.pdf
pins: 1 ~{{MCLR}/VPP}, 2 RA0/AN0/CVref, 3 RA1/AN1, 4 RA2/AN2/Vref-, 5 RA3/AN3/Vref+, 6 RA4/TOCKI, 7 RA5/AN4/~{{SS}/LVDIN}, 8 ~{{RD}/AN5/RE0}, 9 C1OUT/~{{WR}/AN6/RE1}, 10 C2OUT/~{{CS}/AN7/RE2}, 11 VDD, 12 VSS, 13 OSC1/CLKIN, 14 RA6/OSC2/CLKO, 15 T10S0/T1CKI/RC0, 16 T1OSI/RC1, 17 CCP1/RC2, 18 SCK/SCL/RC3, 19 C1IN+/PSP0/RD0, 20 C1IN-/PSP1/RD1, 21 C2IN+/PSP2/RD2, 22 C2IN-/PSP3/RD3, 23 SDI/SDA/RC4, 24 SDO/RC5, 25 TX/CK/RC6, 26 RX/DT/RC7, 27 P1A/ECCP1/PSP4/RD4, 28 P1B/PSP5/RD5, 29 P1C/PSP6/RD6, 30 P1D/PSP7/RD7, 31 VSS, 32 VDD, 33 RB0/INT0, 34 RB1/INT1, 35 RB2/INT2/CANTX, 36 RB3/CANRX, 37 RB4, 38 RB5/PGM, 39 RB6/PGC, 40 RB7/PGD

## PIC18LF1220-SO
designator *  value PIC18LF1220-SO  Reference: U
ki_keywords: RAM ADC UART PWM; ki_description: 18-Pin Flash Microcontroller 4K Flash 256byte RAM; ki_fp_filters: SOIC*W*7.5x11.6mm*P1.27mm*; Footprint: Package_SO:SOIC-18W_7.5x11.6mm_P1.27mm; Datasheet: http://ww1.microchip.com/downloads/en/DeviceDoc/39605F.pdf
pins: 1 RA0/AN0, 2 RA1/AN1/LVDIN, 3 RA4/TOCKI, 4 ~{{MCLR}/Vpp/RA5}, 5 Vss, 6 RA2/AN2/Vref-, 7 RA3/AN3/Vref+, 8 INT0/AN4/RB0, 9 INT1/CK/TX/AN5/RB1, 10 KBI0/DT/RX/AN6/RB4, 11 KBI1/PGM/RB5, 12 KBI2/P1C/T13CKI/T1OSO/PGC/RB6, 13 KBI3/P1D/T1OSI/PGD/RB7, 14 Vdd, 15 OSC2/CLKO/RA6, 16 OSC1/CLKI/RA7, 17 INT2/P1B/RB2, 18 P1A/CCP1/RB3

## PIC18LF1320-SO
designator *  value PIC18LF1320-SO  Reference: U
ki_keywords: RAM ADC UART PWM; ki_description: 18-Pin Flash Microcontroller 8K Flash 256byte RAM; ki_fp_filters: SOIC*W*7.5x11.6mm*P1.27mm*; Footprint: Package_SO:SOIC-18W_7.5x11.6mm_P1.27mm; Datasheet: http://ww1.microchip.com/downloads/en/DeviceDoc/39605F.pdf
pins: 1 RA0/AN0, 2 RA1/AN1/LVDIN, 3 RA4/TOCKI, 4 ~{{MCLR}/Vpp/RA5}, 5 Vss, 6 RA2/AN2/Vref-, 7 RA3/AN3/Vref+, 8 INT0/AN4/RB0, 9 INT1/CK/TX/AN5/RB1, 10 KBI0/DT/RX/AN6/RB4, 11 KBI1/PGM/RB5, 12 KBI2/P1C/T13CKI/T1OSO/PGC/RB6, 13 KBI3/P1D/T1OSI/PGD/RB7, 14 Vdd, 15 OSC2/CLKO/RA6, 16 OSC1/CLKI/RA7, 17 INT2/P1B/RB2, 18 P1A/CCP1/RB3

## PIC18LF2331-IML
designator *  value PIC18LF2331-IML  Reference: U
ki_keywords: Flash-Based 8-Bit Microcontroller XLP; ki_description: 8K Flash, 768B SRAM, 256B EEPROM, nanoWatt XLP, ADC, PWM, QFN28; ki_fp_filters: QFN*1EP*6x6mm*P0.65mm*; Footprint: Package_DFN_QFN:QFN-28-1EP_6x6mm_P0.65mm_EP4.25x4.25mm; Datasheet: http://ww1.microchip.com/downloads/en/DeviceDoc/39616d.pdf
pins: 1 RA2/AN2/Vref-/CAP1/INDX, 2 RA3/AN3/Vref+/CAP2/QEA, 3 RA4/AN4/CAP3/QEB, 4 AVDD, 5 AVSS, 6 RA7/OSC1/CLKI, 7 RA6/OSC2/CLKO, 8 T1OSO/T1CKI/RC0, 9 ~{{FLTA}/T1OSI/CCP2/RC1}, 10 ~{{FLTB}/CCP1/RC2}, 11 INT0/T5CKI/T0CKI/RC3, 12 INT1/SDI/SDA/RC4, 13 INT2/SCK/SCL/RC5, 14 TX/~{{SS}/CK/RC6}, 15 RX/SDO/DT/RC7, 16 VSS, 17 VDD, 18 RB0/PWM0, 19 RB1/PWM1, 20 RB2/PWM2, 21 RB3/PWM3, 22 RB4/KBI0/PWM5, 23 RB5/KBI1/PWM4/PGM, 24 RB6/KBI2/PGC, 25 RB7/KBI3/PGD, 26 ~{{MCLR}/Vpp}, 27 RA0/AN0, 28 RA1/AN1

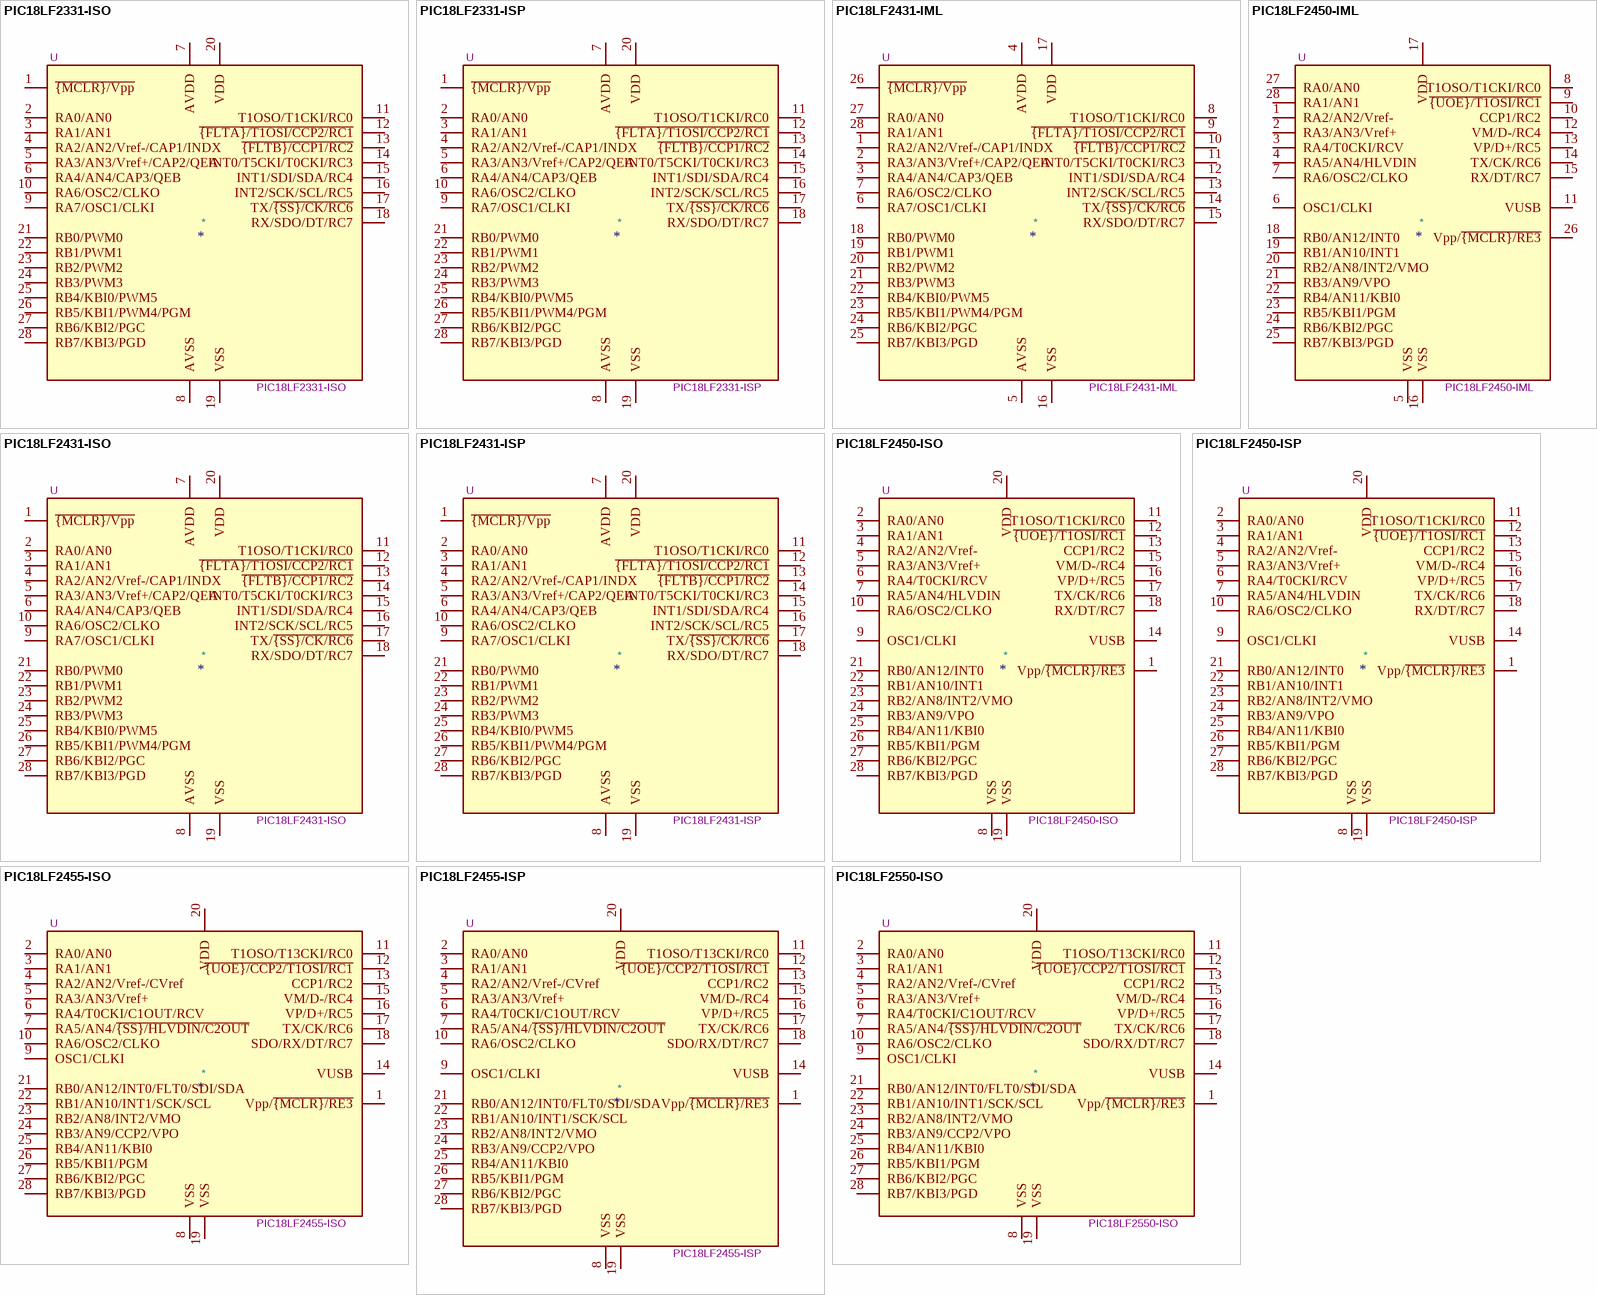
[diagram p13: symbols PIC18LF2331-ISO to PIC18LF2550-ISO]

## PIC18LF2331-ISO
designator *  value PIC18LF2331-ISO  Reference: U
ki_keywords: Flash-Based 8-Bit Microcontroller XLP; ki_description: 8K Flash, 768B SRAM, 256B EEPROM, nanoWatt XLP, ADC, PWM, SOIC28; ki_fp_filters: SO*W*7.5x17.9mm*P1.27mm*; Footprint: Package_SO:SOIC-28W_7.5x17.9mm_P1.27mm; Datasheet: http://ww1.microchip.com/downloads/en/DeviceDoc/39616d.pdf
pins: 1 ~{{MCLR}/Vpp}, 2 RA0/AN0, 3 RA1/AN1, 4 RA2/AN2/Vref-/CAP1/INDX, 5 RA3/AN3/Vref+/CAP2/QEA, 6 RA4/AN4/CAP3/QEB, 7 AVDD, 8 AVSS, 9 RA7/OSC1/CLKI, 10 RA6/OSC2/CLKO, 11 T1OSO/T1CKI/RC0, 12 ~{{FLTA}/T1OSI/CCP2/RC1}, 13 ~{{FLTB}/CCP1/RC2}, 14 INT0/T5CKI/T0CKI/RC3, 15 INT1/SDI/SDA/RC4, 16 INT2/SCK/SCL/RC5, 17 TX/~{{SS}/CK/RC6}, 18 RX/SDO/DT/RC7, 19 VSS, 20 VDD, 21 RB0/PWM0, 22 RB1/PWM1, 23 RB2/PWM2, 24 RB3/PWM3, 25 RB4/KBI0/PWM5, 26 RB5/KBI1/PWM4/PGM, 27 RB6/KBI2/PGC, 28 RB7/KBI3/PGD

## PIC18LF2331-ISP
designator *  value PIC18LF2331-ISP  Reference: U
ki_keywords: Flash-Based 8-Bit Microcontroller XLP; ki_description: 8K Flash, 768B SRAM, 256B EEPROM, nanoWatt XLP, ADC, PWM, SPDIP28; ki_fp_filters: DIP*W7.62mm* PDIP*W7.62mm*; Footprint: Package_DIP:DIP-28_W7.62mm; Datasheet: http://ww1.microchip.com/downloads/en/DeviceDoc/39616d.pdf
pins: 1 ~{{MCLR}/Vpp}, 2 RA0/AN0, 3 RA1/AN1, 4 RA2/AN2/Vref-/CAP1/INDX, 5 RA3/AN3/Vref+/CAP2/QEA, 6 RA4/AN4/CAP3/QEB, 7 AVDD, 8 AVSS, 9 RA7/OSC1/CLKI, 10 RA6/OSC2/CLKO, 11 T1OSO/T1CKI/RC0, 12 ~{{FLTA}/T1OSI/CCP2/RC1}, 13 ~{{FLTB}/CCP1/RC2}, 14 INT0/T5CKI/T0CKI/RC3, 15 INT1/SDI/SDA/RC4, 16 INT2/SCK/SCL/RC5, 17 TX/~{{SS}/CK/RC6}, 18 RX/SDO/DT/RC7, 19 VSS, 20 VDD, 21 RB0/PWM0, 22 RB1/PWM1, 23 RB2/PWM2, 24 RB3/PWM3, 25 RB4/KBI0/PWM5, 26 RB5/KBI1/PWM4/PGM, 27 RB6/KBI2/PGC, 28 RB7/KBI3/PGD

## PIC18LF2431-IML
designator *  value PIC18LF2431-IML  Reference: U
ki_keywords: Flash-Based 8-Bit Microcontroller XLP; ki_description: 16K Flash, 768B SRAM, 256B EEPROM, nanoWatt XLP, ADC, PWM, QFN28; ki_fp_filters: QFN*1EP*6x6mm*P0.65mm*; Footprint: Package_DFN_QFN:QFN-28-1EP_6x6mm_P0.65mm_EP4.25x4.25mm; Datasheet: http://ww1.microchip.com/downloads/en/DeviceDoc/39616d.pdf
pins: 1 RA2/AN2/Vref-/CAP1/INDX, 2 RA3/AN3/Vref+/CAP2/QEA, 3 RA4/AN4/CAP3/QEB, 4 AVDD, 5 AVSS, 6 RA7/OSC1/CLKI, 7 RA6/OSC2/CLKO, 8 T1OSO/T1CKI/RC0, 9 ~{{FLTA}/T1OSI/CCP2/RC1}, 10 ~{{FLTB}/CCP1/RC2}, 11 INT0/T5CKI/T0CKI/RC3, 12 INT1/SDI/SDA/RC4, 13 INT2/SCK/SCL/RC5, 14 TX/~{{SS}/CK/RC6}, 15 RX/SDO/DT/RC7, 16 VSS, 17 VDD, 18 RB0/PWM0, 19 RB1/PWM1, 20 RB2/PWM2, 21 RB3/PWM3, 22 RB4/KBI0/PWM5, 23 RB5/KBI1/PWM4/PGM, 24 RB6/KBI2/PGC, 25 RB7/KBI3/PGD, 26 ~{{MCLR}/Vpp}, 27 RA0/AN0, 28 RA1/AN1

## PIC18LF2431-ISO
designator *  value PIC18LF2431-ISO  Reference: U
ki_keywords: Flash-Based 8-Bit Microcontroller XLP; ki_description: 16K Flash, 768B SRAM, 256B EEPROM, nanoWatt XLP, ADC, PWM, SOIC28; ki_fp_filters: SO*W*7.5x17.9mm*P1.27mm*; Footprint: Package_SO:SOIC-28W_7.5x17.9mm_P1.27mm; Datasheet: http://ww1.microchip.com/downloads/en/DeviceDoc/39616d.pdf
pins: 1 ~{{MCLR}/Vpp}, 2 RA0/AN0, 3 RA1/AN1, 4 RA2/AN2/Vref-/CAP1/INDX, 5 RA3/AN3/Vref+/CAP2/QEA, 6 RA4/AN4/CAP3/QEB, 7 AVDD, 8 AVSS, 9 RA7/OSC1/CLKI, 10 RA6/OSC2/CLKO, 11 T1OSO/T1CKI/RC0, 12 ~{{FLTA}/T1OSI/CCP2/RC1}, 13 ~{{FLTB}/CCP1/RC2}, 14 INT0/T5CKI/T0CKI/RC3, 15 INT1/SDI/SDA/RC4, 16 INT2/SCK/SCL/RC5, 17 TX/~{{SS}/CK/RC6}, 18 RX/SDO/DT/RC7, 19 VSS, 20 VDD, 21 RB0/PWM0, 22 RB1/PWM1, 23 RB2/PWM2, 24 RB3/PWM3, 25 RB4/KBI0/PWM5, 26 RB5/KBI1/PWM4/PGM, 27 RB6/KBI2/PGC, 28 RB7/KBI3/PGD

## PIC18LF2431-ISP
designator *  value PIC18LF2431-ISP  Reference: U
ki_keywords: Flash-Based 8-Bit Microcontroller XLP; ki_description: 16K Flash, 768B SRAM, 256B EEPROM, nanoWatt XLP, ADC, PWM, SPDIP28; ki_fp_filters: DIP*W7.62mm* PDIP*W7.62mm*; Footprint: Package_DIP:DIP-28_W7.62mm; Datasheet: http://ww1.microchip.com/downloads/en/DeviceDoc/39616d.pdf
pins: 1 ~{{MCLR}/Vpp}, 2 RA0/AN0, 3 RA1/AN1, 4 RA2/AN2/Vref-/CAP1/INDX, 5 RA3/AN3/Vref+/CAP2/QEA, 6 RA4/AN4/CAP3/QEB, 7 AVDD, 8 AVSS, 9 RA7/OSC1/CLKI, 10 RA6/OSC2/CLKO, 11 T1OSO/T1CKI/RC0, 12 ~{{FLTA}/T1OSI/CCP2/RC1}, 13 ~{{FLTB}/CCP1/RC2}, 14 INT0/T5CKI/T0CKI/RC3, 15 INT1/SDI/SDA/RC4, 16 INT2/SCK/SCL/RC5, 17 TX/~{{SS}/CK/RC6}, 18 RX/SDO/DT/RC7, 19 VSS, 20 VDD, 21 RB0/PWM0, 22 RB1/PWM1, 23 RB2/PWM2, 24 RB3/PWM3, 25 RB4/KBI0/PWM5, 26 RB5/KBI1/PWM4/PGM, 27 RB6/KBI2/PGC, 28 RB7/KBI3/PGD

## PIC18LF2450-IML
designator *  value PIC18LF2450-IML  Reference: U
ki_keywords: Flash-Based 8-Bit Microcontroller XLP; ki_description: 16K Flash, 8K SRAM, USB, nanoWatt XLP, QFN28; ki_fp_filters: QFN*1EP*6x6mm*P0.65mm*; Footprint: Package_DFN_QFN:QFN-28-1EP_6x6mm_P0.65mm_EP4.25x4.25mm; Datasheet: http://ww1.microchip.com/downloads/en/DeviceDoc/39760d.pdf
pins: 1 RA2/AN2/Vref-, 2 RA3/AN3/Vref+, 3 RA4/T0CKI/RCV, 4 RA5/AN4/HLVDIN, 5 VSS, 6 OSC1/CLKI, 7 RA6/OSC2/CLKO, 8 T1OSO/T1CKI/RC0, 9 ~{{UOE}/T1OSI/RC1}, 10 CCP1/RC2, 11 VUSB, 12 VM/D-/RC4, 13 VP/D+/RC5, 14 TX/CK/RC6, 15 RX/DT/RC7, 16 VSS, 17 VDD, 18 RB0/AN12/INT0, 19 RB1/AN10/INT1, 20 RB2/AN8/INT2/VMO, 21 RB3/AN9/VPO, 22 RB4/AN11/KBI0, 23 RB5/KBI1/PGM, 24 RB6/KBI2/PGC, 25 RB7/KBI3/PGD, 26 Vpp/~{{MCLR}/RE3}, 27 RA0/AN0, 28 RA1/AN1

## PIC18LF2450-ISO
designator *  value PIC18LF2450-ISO  Reference: U
ki_keywords: Flash-Based 8-Bit Microcontroller XLP; ki_description: 16K Flash, 8K SRAM, USB, nanoWatt XLP, SOIC28; ki_fp_filters: SOIC*W*7.5x12.8mm*P1.27mm*; Footprint: Package_SO:SOIC-20W_7.5x12.8mm_P1.27mm; Datasheet: http://ww1.microchip.com/downloads/en/DeviceDoc/39760d.pdf
pins: 1 Vpp/~{{MCLR}/RE3}, 2 RA0/AN0, 3 RA1/AN1, 4 RA2/AN2/Vref-, 5 RA3/AN3/Vref+, 6 RA4/T0CKI/RCV, 7 RA5/AN4/HLVDIN, 8 VSS, 9 OSC1/CLKI, 10 RA6/OSC2/CLKO, 11 T1OSO/T1CKI/RC0, 12 ~{{UOE}/T1OSI/RC1}, 13 CCP1/RC2, 14 VUSB, 15 VM/D-/RC4, 16 VP/D+/RC5, 17 TX/CK/RC6, 18 RX/DT/RC7, 19 VSS, 20 VDD, 21 RB0/AN12/INT0, 22 RB1/AN10/INT1, 23 RB2/AN8/INT2/VMO, 24 RB3/AN9/VPO, 25 RB4/AN11/KBI0, 26 RB5/KBI1/PGM, 27 RB6/KBI2/PGC, 28 RB7/KBI3/PGD

## PIC18LF2450-ISP
designator *  value PIC18LF2450-ISP  Reference: U
ki_keywords: Flash-Based 8-Bit Microcontroller XLP; ki_description: 16K Flash, 8K SRAM, USB, nanoWatt XLP, SPDIP28; ki_fp_filters: SPDIP*W7.62mm* DIP*W7.62mm* PDIP*W7.62mm*; Footprint: Package_DIP:DIP-28_W7.62mm; Datasheet: http://ww1.microchip.com/downloads/en/DeviceDoc/39760d.pdf
pins: 1 Vpp/~{{MCLR}/RE3}, 2 RA0/AN0, 3 RA1/AN1, 4 RA2/AN2/Vref-, 5 RA3/AN3/Vref+, 6 RA4/T0CKI/RCV, 7 RA5/AN4/HLVDIN, 8 VSS, 9 OSC1/CLKI, 10 RA6/OSC2/CLKO, 11 T1OSO/T1CKI/RC0, 12 ~{{UOE}/T1OSI/RC1}, 13 CCP1/RC2, 14 VUSB, 15 VM/D-/RC4, 16 VP/D+/RC5, 17 TX/CK/RC6, 18 RX/DT/RC7, 19 VSS, 20 VDD, 21 RB0/AN12/INT0, 22 RB1/AN10/INT1, 23 RB2/AN8/INT2/VMO, 24 RB3/AN9/VPO, 25 RB4/AN11/KBI0, 26 RB5/KBI1/PGM, 27 RB6/KBI2/PGC, 28 RB7/KBI3/PGD

## PIC18LF2455-ISO
designator *  value PIC18LF2455-ISO  Reference: U
ki_keywords: Flash-Based 8-Bit Microcontroller XLP; ki_description: 24K Flash, 2K SRAM, 256 EEPROM, USB, nanoWatt XLP, SOIC28; ki_fp_filters: SO*W*7.5x17.9mm_P1.27mm*; Footprint: Package_SO:SOIC-28W_7.5x17.9mm_P1.27mm; Datasheet: http://ww1.microchip.com/downloads/en/devicedoc/39632c.pdf
pins: 1 Vpp/~{{MCLR}/RE3}, 2 RA0/AN0, 3 RA1/AN1, 4 RA2/AN2/Vref-/CVref, 5 RA3/AN3/Vref+, 6 RA4/T0CKI/C1OUT/RCV, 7 RA5/AN4/~{{SS}/HLVDIN/C2OUT}, 8 VSS, 9 OSC1/CLKI, 10 RA6/OSC2/CLKO, 11 T1OSO/T13CKI/RC0, 12 ~{{UOE}/CCP2/T1OSI/RC1}, 13 CCP1/RC2, 14 VUSB, 15 VM/D-/RC4, 16 VP/D+/RC5, 17 TX/CK/RC6, 18 SDO/RX/DT/RC7, 19 VSS, 20 VDD, 21 RB0/AN12/INT0/FLT0/SDI/SDA, 22 RB1/AN10/INT1/SCK/SCL, 23 RB2/AN8/INT2/VMO, 24 RB3/AN9/CCP2/VPO, 25 RB4/AN11/KBI0, 26 RB5/KBI1/PGM, 27 RB6/KBI2/PGC, 28 RB7/KBI3/PGD

## PIC18LF2455-ISP
designator *  value PIC18LF2455-ISP  Reference: U
ki_keywords: Flash-Based 8-Bit Microcontroller XLP; ki_description: 24K Flash, 2K SRAM, 256 EEPROM, USB, nanoWatt XLP, SPDIP28; ki_fp_filters: SPDIP*28_W7.62mm* DIP*28_W7.62mm* PDIP*28_W7.62mm*; Footprint: Package_DIP:DIP-28_W7.62mm; Datasheet: http://ww1.microchip.com/downloads/en/devicedoc/39632c.pdf
pins: 1 Vpp/~{{MCLR}/RE3}, 2 RA0/AN0, 3 RA1/AN1, 4 RA2/AN2/Vref-/CVref, 5 RA3/AN3/Vref+, 6 RA4/T0CKI/C1OUT/RCV, 7 RA5/AN4/~{{SS}/HLVDIN/C2OUT}, 8 VSS, 9 OSC1/CLKI, 10 RA6/OSC2/CLKO, 11 T1OSO/T13CKI/RC0, 12 ~{{UOE}/CCP2/T1OSI/RC1}, 13 CCP1/RC2, 14 VUSB, 15 VM/D-/RC4, 16 VP/D+/RC5, 17 TX/CK/RC6, 18 SDO/RX/DT/RC7, 19 VSS, 20 VDD, 21 RB0/AN12/INT0/FLT0/SDI/SDA, 22 RB1/AN10/INT1/SCK/SCL, 23 RB2/AN8/INT2/VMO, 24 RB3/AN9/CCP2/VPO, 25 RB4/AN11/KBI0, 26 RB5/KBI1/PGM, 27 RB6/KBI2/PGC, 28 RB7/KBI3/PGD

## PIC18LF2550-ISO
designator *  value PIC18LF2550-ISO  Reference: U
ki_keywords: Flash-Based 8-Bit Microcontroller XLP; ki_description: 32K Flash, 2K SRAM, 256 EEPROM, USB, nanoWatt XLP, SOIC28; ki_fp_filters: SO*W*7.5x17.9mm_P1.27mm*; Footprint: Package_SO:SOIC-28W_7.5x17.9mm_P1.27mm; Datasheet: http://ww1.microchip.com/downloads/en/devicedoc/39632c.pdf
pins: 1 Vpp/~{{MCLR}/RE3}, 2 RA0/AN0, 3 RA1/AN1, 4 RA2/AN2/Vref-/CVref, 5 RA3/AN3/Vref+, 6 RA4/T0CKI/C1OUT/RCV, 7 RA5/AN4/~{{SS}/HLVDIN/C2OUT}, 8 VSS, 9 OSC1/CLKI, 10 RA6/OSC2/CLKO, 11 T1OSO/T13CKI/RC0, 12 ~{{UOE}/CCP2/T1OSI/RC1}, 13 CCP1/RC2, 14 VUSB, 15 VM/D-/RC4, 16 VP/D+/RC5, 17 TX/CK/RC6, 18 SDO/RX/DT/RC7, 19 VSS, 20 VDD, 21 RB0/AN12/INT0/FLT0/SDI/SDA, 22 RB1/AN10/INT1/SCK/SCL, 23 RB2/AN8/INT2/VMO, 24 RB3/AN9/CCP2/VPO, 25 RB4/AN11/KBI0, 26 RB5/KBI1/PGM, 27 RB6/KBI2/PGC, 28 RB7/KBI3/PGD

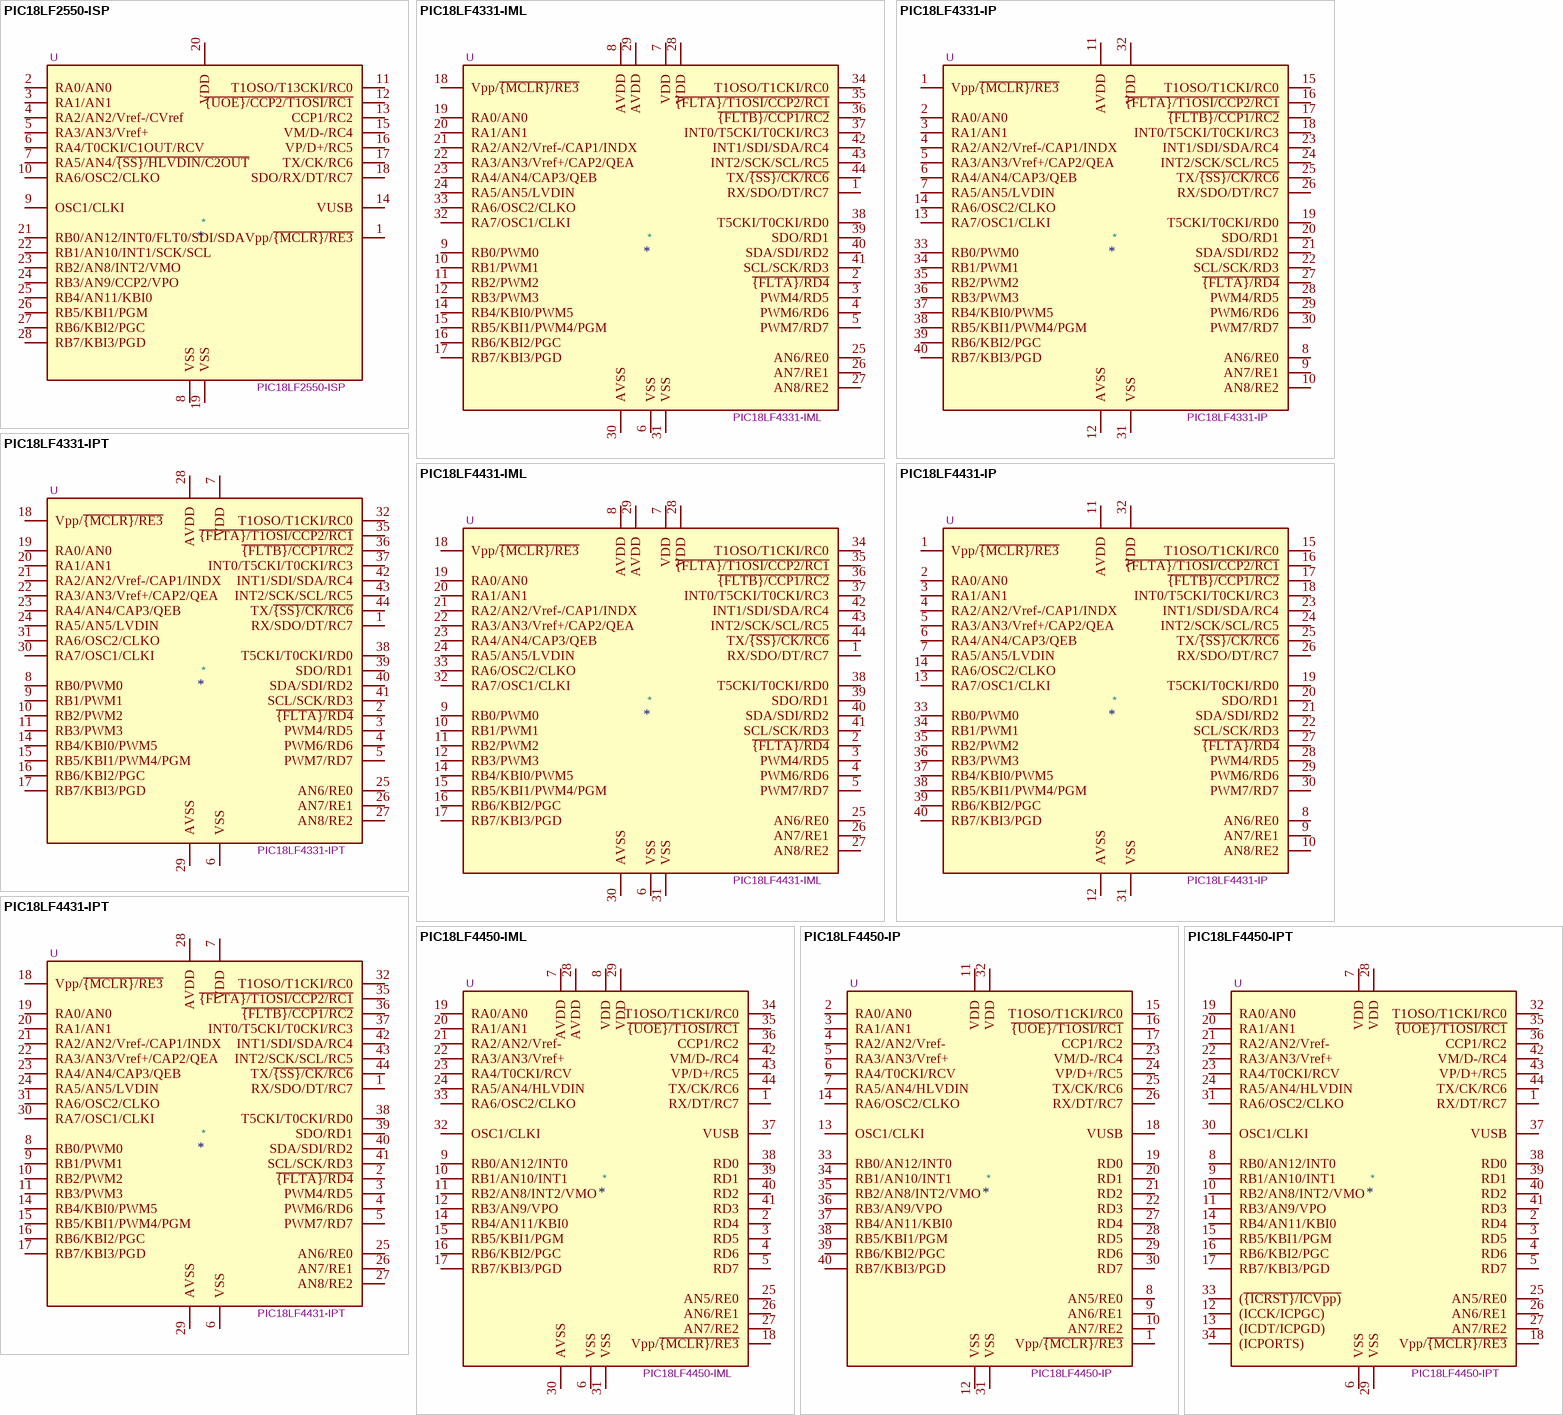
[diagram p14: symbols PIC18LF2550-ISP to PIC18LF4450-IPT]

## PIC18LF2550-ISP
designator *  value PIC18LF2550-ISP  Reference: U
ki_keywords: Flash-Based 8-Bit Microcontroller XLP; ki_description: 32K Flash, 2K SRAM, 256 EEPROM, USB, nanoWatt XLP, SPDIP28; ki_fp_filters: SPDIP*28_W7.62mm* DIP*28_W7.62mm* PDIP*28_W7.62mm*; Footprint: Package_DIP:DIP-28_W7.62mm; Datasheet: http://ww1.microchip.com/downloads/en/devicedoc/39632c.pdf
pins: 1 Vpp/~{{MCLR}/RE3}, 2 RA0/AN0, 3 RA1/AN1, 4 RA2/AN2/Vref-/CVref, 5 RA3/AN3/Vref+, 6 RA4/T0CKI/C1OUT/RCV, 7 RA5/AN4/~{{SS}/HLVDIN/C2OUT}, 8 VSS, 9 OSC1/CLKI, 10 RA6/OSC2/CLKO, 11 T1OSO/T13CKI/RC0, 12 ~{{UOE}/CCP2/T1OSI/RC1}, 13 CCP1/RC2, 14 VUSB, 15 VM/D-/RC4, 16 VP/D+/RC5, 17 TX/CK/RC6, 18 SDO/RX/DT/RC7, 19 VSS, 20 VDD, 21 RB0/AN12/INT0/FLT0/SDI/SDA, 22 RB1/AN10/INT1/SCK/SCL, 23 RB2/AN8/INT2/VMO, 24 RB3/AN9/CCP2/VPO, 25 RB4/AN11/KBI0, 26 RB5/KBI1/PGM, 27 RB6/KBI2/PGC, 28 RB7/KBI3/PGD

## PIC18LF4331-IML
designator *  value PIC18LF4331-IML  Reference: U
ki_keywords: Flash-Based 8-Bit Microcontroller XLP; ki_description: 8K Flash, 768B SRAM, 256B EEPROM, nanoWatt XLP, ADC, PWM, QFN44; ki_fp_filters: QFN*1EP*8x8mm*P0.65mm*; Footprint: Package_DFN_QFN:QFN-44-1EP_8x8mm_P0.65mm_EP6.45x6.45mm; Datasheet: http://ww1.microchip.com/downloads/en/DeviceDoc/39616d.pdf
pins: 1 RX/SDO/DT/RC7, 2 ~{{FLTA}/RD4}, 3 PWM4/RD5, 4 PWM6/RD6, 5 PWM7/RD7, 6 VSS, 7 VDD, 8 AVDD, 9 RB0/PWM0, 10 RB1/PWM1, 11 RB2/PWM2, 12 RB3/PWM3, 13 NC hidden, 14 RB4/KBI0/PWM5, 15 RB5/KBI1/PWM4/PGM, 16 RB6/KBI2/PGC, 17 RB7/KBI3/PGD, 18 Vpp/~{{MCLR}/RE3}, 19 RA0/AN0, 20 RA1/AN1, 21 RA2/AN2/Vref-/CAP1/INDX, 22 RA3/AN3/Vref+/CAP2/QEA, 23 RA4/AN4/CAP3/QEB, 24 RA5/AN5/LVDIN, 25 AN6/RE0, 26 AN7/RE1, 27 AN8/RE2, 28 VDD, 29 AVDD, 30 AVSS, 31 VSS, 32 RA7/OSC1/CLKI, 33 RA6/OSC2/CLKO, 34 T1OSO/T1CKI/RC0, 35 ~{{FLTA}/T1OSI/CCP2/RC1}, 36 ~{{FLTB}/CCP1/RC2}, 37 INT0/T5CKI/T0CKI/RC3, 38 T5CKI/T0CKI/RD0, 39 SDO/RD1, 40 SDA/SDI/RD2, 41 SCL/SCK/RD3, 42 INT1/SDI/SDA/RC4, 43 INT2/SCK/SCL/RC5, 44 TX/~{{SS}/CK/RC6}

## PIC18LF4331-IP
designator *  value PIC18LF4331-IP  Reference: U
ki_keywords: Flash-Based 8-Bit Microcontroller XLP; ki_description: 8K Flash, 768B SRAM, 256B EEPROM, nanoWatt XLP, ADC, PWM, DIP40; ki_fp_filters: DIP*W15.24* PDIP*W15.24*; Footprint: Package_DIP:DIP-40_W15.24mm; Datasheet: http://ww1.microchip.com/downloads/en/DeviceDoc/39616d.pdf
pins: 1 Vpp/~{{MCLR}/RE3}, 2 RA0/AN0, 3 RA1/AN1, 4 RA2/AN2/Vref-/CAP1/INDX, 5 RA3/AN3/Vref+/CAP2/QEA, 6 RA4/AN4/CAP3/QEB, 7 RA5/AN5/LVDIN, 8 AN6/RE0, 9 AN7/RE1, 10 AN8/RE2, 11 AVDD, 12 AVSS, 13 RA7/OSC1/CLKI, 14 RA6/OSC2/CLKO, 15 T1OSO/T1CKI/RC0, 16 ~{{FLTA}/T1OSI/CCP2/RC1}, 17 ~{{FLTB}/CCP1/RC2}, 18 INT0/T5CKI/T0CKI/RC3, 19 T5CKI/T0CKI/RD0, 20 SDO/RD1, 21 SDA/SDI/RD2, 22 SCL/SCK/RD3, 23 INT1/SDI/SDA/RC4, 24 INT2/SCK/SCL/RC5, 25 TX/~{{SS}/CK/RC6}, 26 RX/SDO/DT/RC7, 27 ~{{FLTA}/RD4}, 28 PWM4/RD5, 29 PWM6/RD6, 30 PWM7/RD7, 31 VSS, 32 VDD, 33 RB0/PWM0, 34 RB1/PWM1, 35 RB2/PWM2, 36 RB3/PWM3, 37 RB4/KBI0/PWM5, 38 RB5/KBI1/PWM4/PGM, 39 RB6/KBI2/PGC, 40 RB7/KBI3/PGD

## PIC18LF4331-IPT
designator *  value PIC18LF4331-IPT  Reference: U
ki_keywords: Flash-Based 8-Bit Microcontroller XLP; ki_description: 8K Flash, 768B SRAM, 256B EEPROM, nanoWatt XLP, ADC, PWM, TQFP44; ki_fp_filters: TQFP*10x10mm*P0.8mm*; Footprint: Package_QFP:TQFP-44_10x10mm_P0.8mm; Datasheet: http://ww1.microchip.com/downloads/en/DeviceDoc/39616d.pdf
pins: 1 RX/SDO/DT/RC7, 2 ~{{FLTA}/RD4}, 3 PWM4/RD5, 4 PWM6/RD6, 5 PWM7/RD7, 6 VSS, 7 VDD, 8 RB0/PWM0, 9 RB1/PWM1, 10 RB2/PWM2, 11 RB3/PWM3, 12 NC hidden, 13 NC hidden, 14 RB4/KBI0/PWM5, 15 RB5/KBI1/PWM4/PGM, 16 RB6/KBI2/PGC, 17 RB7/KBI3/PGD, 18 Vpp/~{{MCLR}/RE3}, 19 RA0/AN0, 20 RA1/AN1, 21 RA2/AN2/Vref-/CAP1/INDX, 22 RA3/AN3/Vref+/CAP2/QEA, 23 RA4/AN4/CAP3/QEB, 24 RA5/AN5/LVDIN, 25 AN6/RE0, 26 AN7/RE1, 27 AN8/RE2, 28 AVDD, 29 AVSS, 30 RA7/OSC1/CLKI, 31 RA6/OSC2/CLKO, 32 T1OSO/T1CKI/RC0, 33 NC hidden, 34 NC hidden, 35 ~{{FLTA}/T1OSI/CCP2/RC1}, 36 ~{{FLTB}/CCP1/RC2}, 37 INT0/T5CKI/T0CKI/RC3, 38 T5CKI/T0CKI/RD0, 39 SDO/RD1, 40 SDA/SDI/RD2, 41 SCL/SCK/RD3, 42 INT1/SDI/SDA/RC4, 43 INT2/SCK/SCL/RC5, 44 TX/~{{SS}/CK/RC6}

## PIC18LF4431-IML
designator *  value PIC18LF4431-IML  Reference: U
ki_keywords: Flash-Based 8-Bit Microcontroller XLP; ki_description: 16K Flash, 768B SRAM, 256B EEPROM, nanoWatt XLP, ADC, PWM, QFN44; ki_fp_filters: QFN*1EP*8x8mm*P0.65mm*; Footprint: Package_DFN_QFN:QFN-44-1EP_8x8mm_P0.65mm_EP6.45x6.45mm; Datasheet: http://ww1.microchip.com/downloads/en/DeviceDoc/39616d.pdf
pins: 1 RX/SDO/DT/RC7, 2 ~{{FLTA}/RD4}, 3 PWM4/RD5, 4 PWM6/RD6, 5 PWM7/RD7, 6 VSS, 7 VDD, 8 AVDD, 9 RB0/PWM0, 10 RB1/PWM1, 11 RB2/PWM2, 12 RB3/PWM3, 13 NC hidden, 14 RB4/KBI0/PWM5, 15 RB5/KBI1/PWM4/PGM, 16 RB6/KBI2/PGC, 17 RB7/KBI3/PGD, 18 Vpp/~{{MCLR}/RE3}, 19 RA0/AN0, 20 RA1/AN1, 21 RA2/AN2/Vref-/CAP1/INDX, 22 RA3/AN3/Vref+/CAP2/QEA, 23 RA4/AN4/CAP3/QEB, 24 RA5/AN5/LVDIN, 25 AN6/RE0, 26 AN7/RE1, 27 AN8/RE2, 28 VDD, 29 AVDD, 30 AVSS, 31 VSS, 32 RA7/OSC1/CLKI, 33 RA6/OSC2/CLKO, 34 T1OSO/T1CKI/RC0, 35 ~{{FLTA}/T1OSI/CCP2/RC1}, 36 ~{{FLTB}/CCP1/RC2}, 37 INT0/T5CKI/T0CKI/RC3, 38 T5CKI/T0CKI/RD0, 39 SDO/RD1, 40 SDA/SDI/RD2, 41 SCL/SCK/RD3, 42 INT1/SDI/SDA/RC4, 43 INT2/SCK/SCL/RC5, 44 TX/~{{SS}/CK/RC6}

## PIC18LF4431-IP
designator *  value PIC18LF4431-IP  Reference: U
ki_keywords: Flash-Based 8-Bit Microcontroller XLP; ki_description: 16K Flash, 768B SRAM, 256B EEPROM, nanoWatt XLP, ADC, PWM, DIP40; ki_fp_filters: DIP*W15.24* PDIP*W15.24*; Footprint: Package_DIP:DIP-40_W15.24mm; Datasheet: http://ww1.microchip.com/downloads/en/DeviceDoc/39616d.pdf
pins: 1 Vpp/~{{MCLR}/RE3}, 2 RA0/AN0, 3 RA1/AN1, 4 RA2/AN2/Vref-/CAP1/INDX, 5 RA3/AN3/Vref+/CAP2/QEA, 6 RA4/AN4/CAP3/QEB, 7 RA5/AN5/LVDIN, 8 AN6/RE0, 9 AN7/RE1, 10 AN8/RE2, 11 AVDD, 12 AVSS, 13 RA7/OSC1/CLKI, 14 RA6/OSC2/CLKO, 15 T1OSO/T1CKI/RC0, 16 ~{{FLTA}/T1OSI/CCP2/RC1}, 17 ~{{FLTB}/CCP1/RC2}, 18 INT0/T5CKI/T0CKI/RC3, 19 T5CKI/T0CKI/RD0, 20 SDO/RD1, 21 SDA/SDI/RD2, 22 SCL/SCK/RD3, 23 INT1/SDI/SDA/RC4, 24 INT2/SCK/SCL/RC5, 25 TX/~{{SS}/CK/RC6}, 26 RX/SDO/DT/RC7, 27 ~{{FLTA}/RD4}, 28 PWM4/RD5, 29 PWM6/RD6, 30 PWM7/RD7, 31 VSS, 32 VDD, 33 RB0/PWM0, 34 RB1/PWM1, 35 RB2/PWM2, 36 RB3/PWM3, 37 RB4/KBI0/PWM5, 38 RB5/KBI1/PWM4/PGM, 39 RB6/KBI2/PGC, 40 RB7/KBI3/PGD

## PIC18LF4431-IPT
designator *  value PIC18LF4431-IPT  Reference: U
ki_keywords: Flash-Based 8-Bit Microcontroller XLP; ki_description: 16K Flash, 768B SRAM, 256B EEPROM, nanoWatt XLP, ADC, PWM, TQFP44; ki_fp_filters: TQFP*10x10mm*P0.8mm*; Footprint: Package_QFP:TQFP-44_10x10mm_P0.8mm; Datasheet: http://ww1.microchip.com/downloads/en/DeviceDoc/39616d.pdf
pins: 1 RX/SDO/DT/RC7, 2 ~{{FLTA}/RD4}, 3 PWM4/RD5, 4 PWM6/RD6, 5 PWM7/RD7, 6 VSS, 7 VDD, 8 RB0/PWM0, 9 RB1/PWM1, 10 RB2/PWM2, 11 RB3/PWM3, 12 NC hidden, 13 NC hidden, 14 RB4/KBI0/PWM5, 15 RB5/KBI1/PWM4/PGM, 16 RB6/KBI2/PGC, 17 RB7/KBI3/PGD, 18 Vpp/~{{MCLR}/RE3}, 19 RA0/AN0, 20 RA1/AN1, 21 RA2/AN2/Vref-/CAP1/INDX, 22 RA3/AN3/Vref+/CAP2/QEA, 23 RA4/AN4/CAP3/QEB, 24 RA5/AN5/LVDIN, 25 AN6/RE0, 26 AN7/RE1, 27 AN8/RE2, 28 AVDD, 29 AVSS, 30 RA7/OSC1/CLKI, 31 RA6/OSC2/CLKO, 32 T1OSO/T1CKI/RC0, 33 NC hidden, 34 NC hidden, 35 ~{{FLTA}/T1OSI/CCP2/RC1}, 36 ~{{FLTB}/CCP1/RC2}, 37 INT0/T5CKI/T0CKI/RC3, 38 T5CKI/T0CKI/RD0, 39 SDO/RD1, 40 SDA/SDI/RD2, 41 SCL/SCK/RD3, 42 INT1/SDI/SDA/RC4, 43 INT2/SCK/SCL/RC5, 44 TX/~{{SS}/CK/RC6}

## PIC18LF4450-IML
designator *  value PIC18LF4450-IML  Reference: U
ki_keywords: Flash-Based 8-Bit Microcontroller XLP; ki_description: 16K Flash, 8K SRAM, USB, nanoWatt XLP, QFN44; ki_fp_filters: QFN*1EP*8x8mm*P0.65mm*; Footprint: Package_DFN_QFN:QFN-44-1EP_8x8mm_P0.65mm_EP6.45x6.45mm; Datasheet: http://ww1.microchip.com/downloads/en/DeviceDoc/39760d.pdf
pins: 1 RX/DT/RC7, 2 RD4, 3 RD5, 4 RD6, 5 RD7, 6 VSS, 7 AVDD, 8 VDD, 9 RB0/AN12/INT0, 10 RB1/AN10/INT1, 11 RB2/AN8/INT2/VMO, 12 RB3/AN9/VPO, 13 NC hidden, 14 RB4/AN11/KBI0, 15 RB5/KBI1/PGM, 16 RB6/KBI2/PGC, 17 RB7/KBI3/PGD, 18 Vpp/~{{MCLR}/RE3}, 19 RA0/AN0, 20 RA1/AN1, 21 RA2/AN2/Vref-, 22 RA3/AN3/Vref+, 23 RA4/T0CKI/RCV, 24 RA5/AN4/HLVDIN, 25 AN5/RE0, 26 AN6/RE1, 27 AN7/RE2, 28 AVDD, 29 VDD, 30 AVSS, 31 VSS, 32 OSC1/CLKI, 33 RA6/OSC2/CLKO, 34 T1OSO/T1CKI/RC0, 35 ~{{UOE}/T1OSI/RC1}, 36 CCP1/RC2, 37 VUSB, 38 RD0, 39 RD1, 40 RD2, 41 RD3, 42 VM/D-/RC4, 43 VP/D+/RC5, 44 TX/CK/RC6

## PIC18LF4450-IP
designator *  value PIC18LF4450-IP  Reference: U
ki_keywords: Flash-Based 8-Bit Microcontroller XLP; ki_description: 16K Flash, 8K SRAM, USB, nanoWatt XLP, PDIP40; ki_fp_filters: DIP*W15.24mm* PDIP*W15.24mm*; Footprint: Package_DIP:DIP-40_W15.24mm; Datasheet: http://ww1.microchip.com/downloads/en/DeviceDoc/39760d.pdf
pins: 1 Vpp/~{{MCLR}/RE3}, 2 RA0/AN0, 3 RA1/AN1, 4 RA2/AN2/Vref-, 5 RA3/AN3/Vref+, 6 RA4/T0CKI/RCV, 7 RA5/AN4/HLVDIN, 8 AN5/RE0, 9 AN6/RE1, 10 AN7/RE2, 11 VDD, 12 VSS, 13 OSC1/CLKI, 14 RA6/OSC2/CLKO, 15 T1OSO/T1CKI/RC0, 16 ~{{UOE}/T1OSI/RC1}, 17 CCP1/RC2, 18 VUSB, 19 RD0, 20 RD1, 21 RD2, 22 RD3, 23 VM/D-/RC4, 24 VP/D+/RC5, 25 TX/CK/RC6, 26 RX/DT/RC7, 27 RD4, 28 RD5, 29 RD6, 30 RD7, 31 VSS, 32 VDD, 33 RB0/AN12/INT0, 34 RB1/AN10/INT1, 35 RB2/AN8/INT2/VMO, 36 RB3/AN9/VPO, 37 RB4/AN11/KBI0, 38 RB5/KBI1/PGM, 39 RB6/KBI2/PGC, 40 RB7/KBI3/PGD

## PIC18LF4450-IPT
designator *  value PIC18LF4450-IPT  Reference: U
ki_keywords: Flash-Based 8-Bit Microcontroller XLP; ki_description: 16K Flash, 8K SRAM, USB, nanoWatt XLP, TQFP44; ki_fp_filters: TQFP*10x10mm*P0.8mm*; Footprint: Package_QFP:TQFP-44_10x10mm_P0.8mm; Datasheet: http://ww1.microchip.com/downloads/en/DeviceDoc/39760d.pdf
pins: 1 RX/DT/RC7, 2 RD4, 3 RD5, 4 RD6, 5 RD7, 6 VSS, 7 VDD, 8 RB0/AN12/INT0, 9 RB1/AN10/INT1, 10 RB2/AN8/INT2/VMO, 11 RB3/AN9/VPO, 12 (ICCK/ICPGC), 13 (ICDT/ICPGD), 14 RB4/AN11/KBI0, 15 RB5/KBI1/PGM, 16 RB6/KBI2/PGC, 17 RB7/KBI3/PGD, 18 Vpp/~{{MCLR}/RE3}, 19 RA0/AN0, 20 RA1/AN1, 21 RA2/AN2/Vref-, 22 RA3/AN3/Vref+, 23 RA4/T0CKI/RCV, 24 RA5/AN4/HLVDIN, 25 AN5/RE0, 26 AN6/RE1, 27 AN7/RE2, 28 VDD, 29 VSS, 30 OSC1/CLKI, 31 RA6/OSC2/CLKO, 32 T1OSO/T1CKI/RC0, 33 (~{{ICRST}/ICVpp)}, 34 (ICPORTS), 35 ~{{UOE}/T1OSI/RC1}, 36 CCP1/RC2, 37 VUSB, 38 RD0, 39 RD1, 40 RD2, 41 RD3, 42 VM/D-/RC4, 43 VP/D+/RC5, 44 TX/CK/RC6

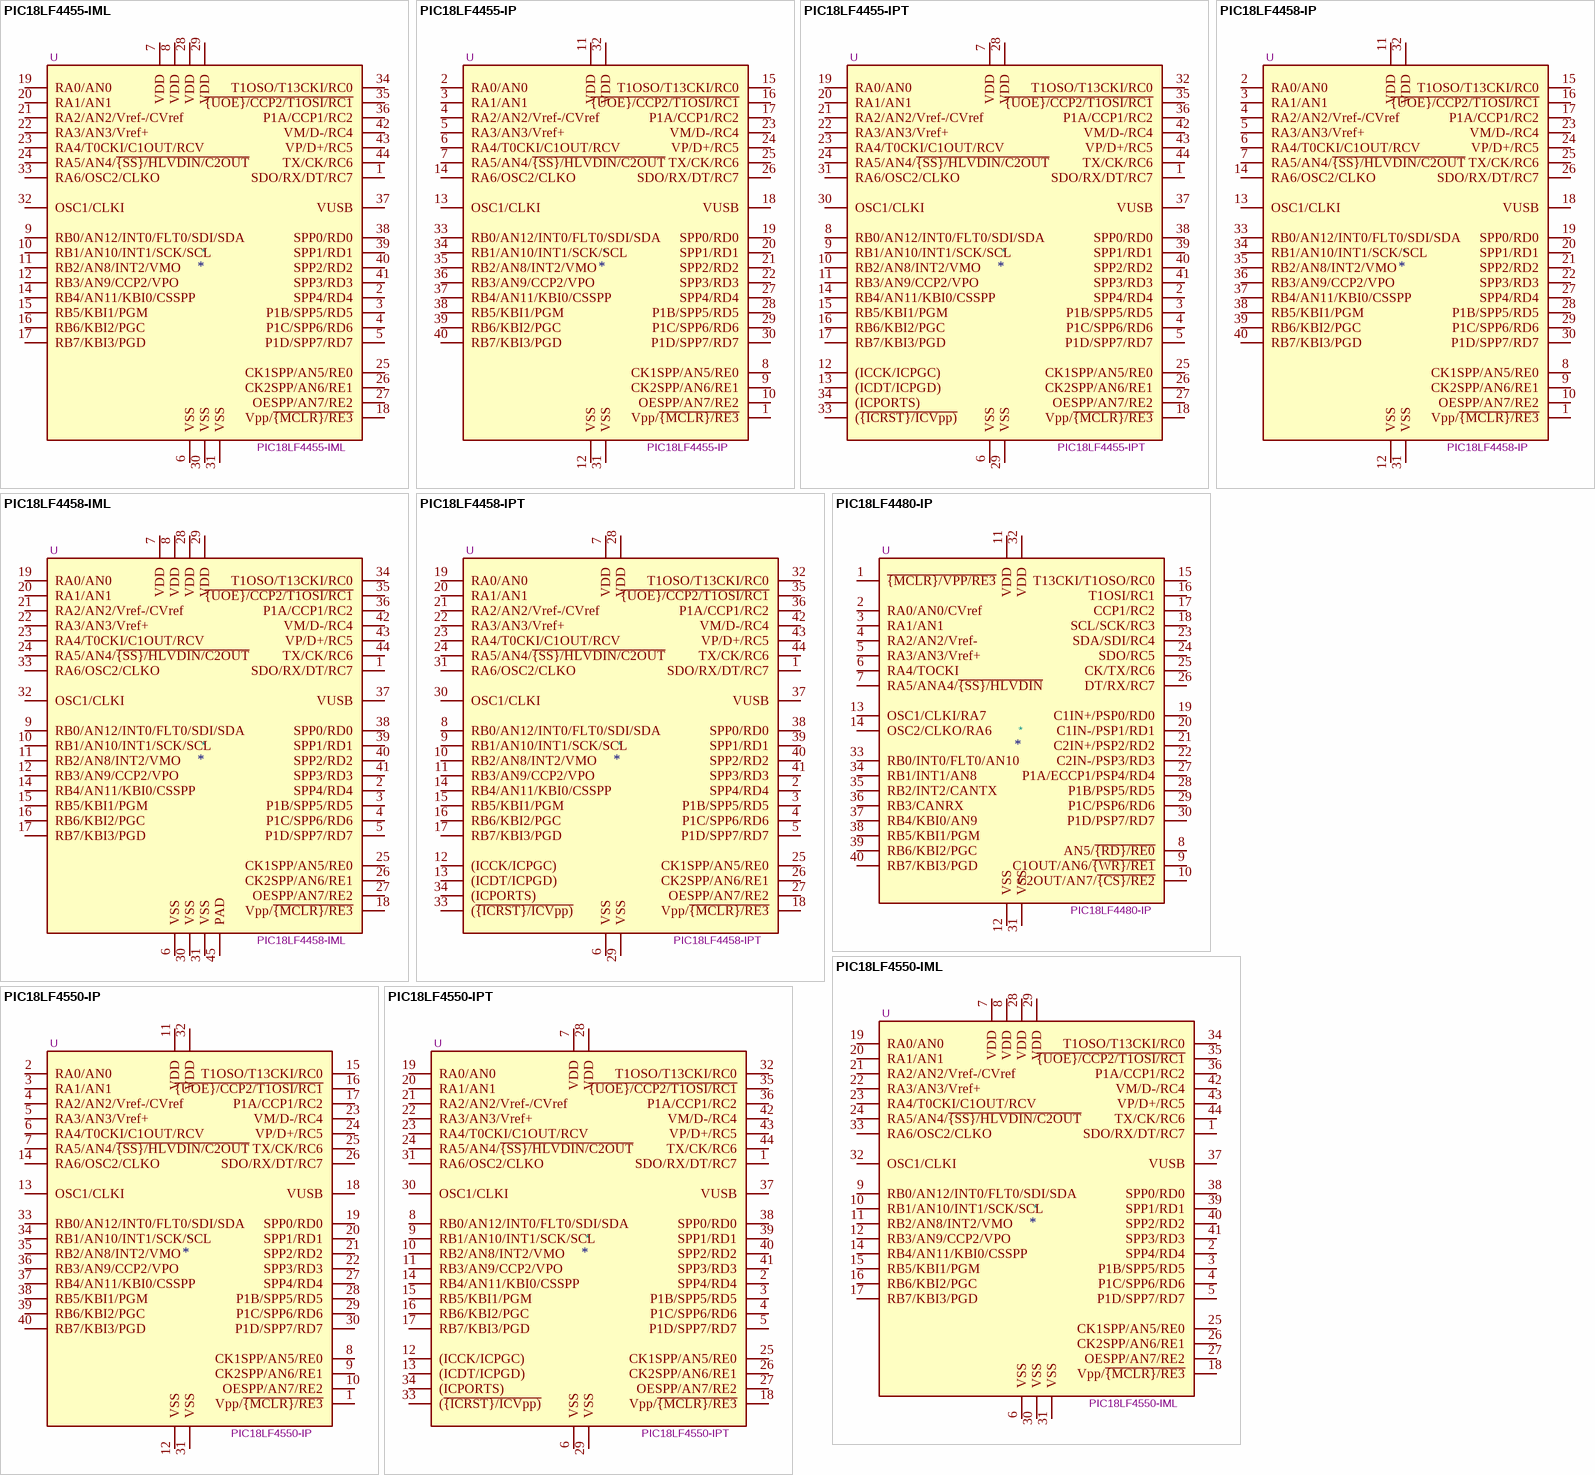
[diagram p15: symbols PIC18LF4455-IML to PIC18LF4550-IPT]

## PIC18LF4455-IML
designator *  value PIC18LF4455-IML  Reference: U
ki_keywords: Flash-Based 8-Bit Microcontroller XLP; ki_description: 24K Flash, 2K SRAM, 256 EEPROM, USB, nanoWatt XLP, QFN44; ki_fp_filters: QFN*1EP*8x8mm*P0.65mm*; Footprint: Package_DFN_QFN:QFN-44-1EP_8x8mm_P0.65mm_EP6.45x6.45mm; Datasheet: http://ww1.microchip.com/downloads/en/DeviceDoc/39760d.pdf
pins: 1 SDO/RX/DT/RC7, 2 SPP4/RD4, 3 P1B/SPP5/RD5, 4 P1C/SPP6/RD6, 5 P1D/SPP7/RD7, 6 VSS, 7 VDD, 8 VDD, 9 RB0/AN12/INT0/FLT0/SDI/SDA, 10 RB1/AN10/INT1/SCK/SCL, 11 RB2/AN8/INT2/VMO, 12 RB3/AN9/CCP2/VPO, 13 NC hidden, 14 RB4/AN11/KBI0/CSSPP, 15 RB5/KBI1/PGM, 16 RB6/KBI2/PGC, 17 RB7/KBI3/PGD, 18 Vpp/~{{MCLR}/RE3}, 19 RA0/AN0, 20 RA1/AN1, 21 RA2/AN2/Vref-/CVref, 22 RA3/AN3/Vref+, 23 RA4/T0CKI/C1OUT/RCV, 24 RA5/AN4/~{{SS}/HLVDIN/C2OUT}, 25 CK1SPP/AN5/RE0, 26 CK2SPP/AN6/RE1, 27 OESPP/AN7/RE2, 28 VDD, 29 VDD, 30 VSS, 31 VSS, 32 OSC1/CLKI, 33 RA6/OSC2/CLKO, 34 T1OSO/T13CKI/RC0, 35 ~{{UOE}/CCP2/T1OSI/RC1}, 36 P1A/CCP1/RC2, 37 VUSB, 38 SPP0/RD0, 39 SPP1/RD1, 40 SPP2/RD2, 41 SPP3/RD3, 42 VM/D-/RC4, 43 VP/D+/RC5, 44 TX/CK/RC6